# Altium schematic symbol library LIBRARY_SCH.SCHLIB: 713 symbols (part 5 of 6)
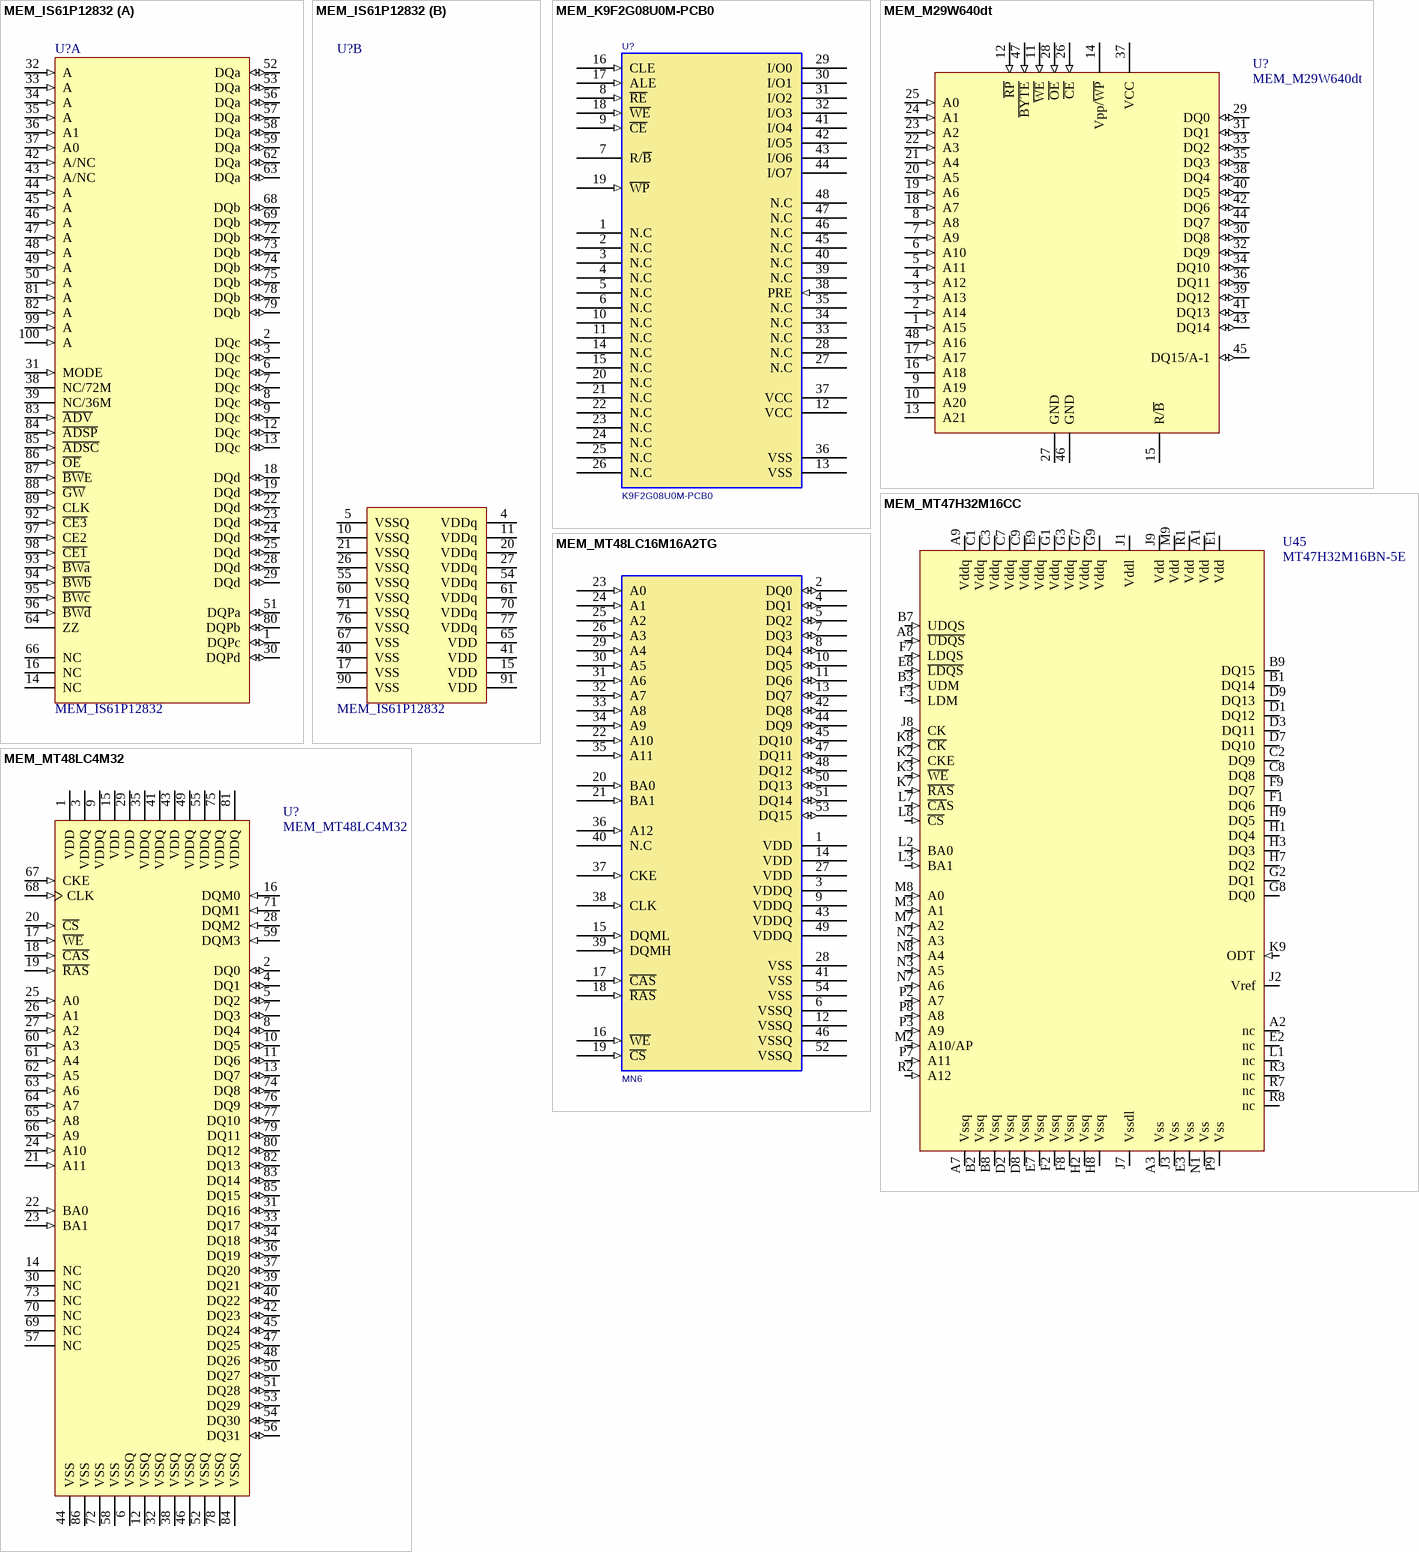
[diagram p43: symbols MEM_IS61P12832 to MEM_MT48LC16M16A2TG]

## MEM_IS61P12832
designator U?
High speed synchronous SRAM
footprint TPQF100A101
part A pins: 1 DQPc (io), 2 DQc (io), 3 DQc (io), 6 DQc (io), 7 DQc (io), 8 DQc (io), 9 DQc (io), 12 DQc (io), 13 DQc (io), 14 NC, 16 NC, 18 DQd (io), 19 DQd (io), 22 DQd (io), 23 DQd (io), 24 DQd (io), 25 DQd (io), 28 DQd (io), 29 DQd (io), 30 DQPd (io), 31 MODE (in), 32 A (in), 33 A (in), 34 A (in), 35 A (in), 36 A1 (in), 37 A0 (in), 38 NC/72M, 39 NC/36M, 42 A/NC (in), 43 A/NC (in), 44 A (in), 45 A (in), 46 A (in), 47 A (in), 48 A (in), 49 A (in), 50 A (in), 51 DQPa (io), 52 DQa (io), 53 DQa (io), 56 DQa (io), 57 DQa (io), 58 DQa (io), 59 DQa (io), 62 DQa (io), 63 DQa (io), 64 ZZ, 66 NC, 68 DQb (io), 69 DQb (io), 72 DQb (io), 73 DQb (io), 74 DQb (io), 75 DQb (io), 78 DQb (io), 79 DQb (io), 80 DQPb (io), 81 A (in), 82 A (in), 83 ~{ADV} (in), 84 ~{ADSP} (in), 85 ~{ADSC} (in), 86 ~{OE} (in), 87 ~{BW}E (in), 88 ~{GW} (in), 89 CLK (in), 92 ~{CE3} (in), 93 ~{BWa} (in), 94 ~{BWb} (in), 95 ~{BWc} (in), 96 ~{BWd} (in), 97 CE2 (in), 98 ~{CE1} (in), 99 A (in), 100 A (in)
part B pins: 4 VDDq (power), 5 VSSQ (power), 10 VSSQ (power), 11 VDDq (power), 15 VDD (power), 17 VSS (power), 20 VDDq (power), 21 VSSQ (power), 26 VSSQ (power), 27 VDDq (power), 40 VSS (power), 41 VDD (power), 54 VDDq (power), 55 VSSQ (power), 60 VSSQ (power), 61 VDDq (power), 65 VDD (power), 67 VSS (power), 70 VDDq (power), 71 VSSQ (power), 76 VSSQ (power), 77 VDDq (power), 90 VSS (power), 91 VDD (power)
2 alternate drawings of the same symbol

## MEM_K9F2G08U0M-PCB0
designator U?  VAL: K9F2G08U0M-PCB0  (hidden comment: MEM_K9F2G08U0M-PCB0)
TEN: 2,7..3,6V; DESIG: NANDFLASH; BOI: TSOP48; FAB: SAMSUNG; DEV: CIS_TSOP48_01; Right: 120; Bottom: 290; REF: K9F2G08U0M-PCB0; RoHS: YES
footprint TSOP48_12x20
pins: 1 N.C, 2 N.C, 3 N.C, 4 N.C, 5 N.C, 6 N.C, 7 R/~{B} (oc), 8 ~{RE} (in), 9 ~{CE} (in), 10 N.C, 11 N.C, 12 VCC (power), 13 VSS (power), 14 N.C, 15 N.C, 16 CLE (in), 17 ALE (in), 18 ~{WE} (in), 19 ~{WP} (in), 20 N.C, 21 N.C, 22 N.C, 23 N.C, 24 N.C, 25 N.C, 26 N.C, 27 N.C, 28 N.C, 29 I/O0 (hiz), 30 I/O1 (hiz), 31 I/O2 (hiz), 32 I/O3 (hiz), 33 N.C, 34 N.C, 35 N.C, 36 VSS (power), 37 VCC (power), 38 PRE (in), 39 N.C, 40 N.C, 41 I/O4 (hiz), 42 I/O5 (hiz), 43 I/O6 (hiz), 44 I/O7 (hiz), 45 N.C, 46 N.C, 47 N.C, 48 N.C

## MEM_M29W640dt
designator U?
Low-Voltage 4 Mbit (x8 or x16, Block Erase) Flash Memory; Published: *; LatestRevisionDate: *; LatestRevisionNote: *; DatasheetDocument: *; PackageDocument: *; PackageReference: *; Publisher: *; Note: *; Code_JEDEC: *; ComponentLink1Description: *; ComponentLink1URL: *
footprint TSOP48
pins: 1 A15 (in), 2 A14 (in), 3 A13 (in), 4 A12 (in), 5 A11 (in), 6 A10 (in), 7 A9 (in), 8 A8 (in), 9 A19, 10 A20, 11 ~{WE} (in), 12 ~{RP} (in), 13 A21 (power), 14 Vpp/~{WP}, 15 R/~{B}, 16 A18, 17 A17 (in), 18 A7 (in), 19 A6 (in), 20 A5 (in), 21 A4 (in), 22 A3 (in), 23 A2 (in), 24 A1 (in), 25 A0 (in), 26 ~{CE} (in), 27 GND (power), 28 ~{OE} (in), 29 DQ0 (io), 30 DQ8 (io), 31 DQ1 (io), 32 DQ9 (io), 33 DQ2 (io), 34 DQ10 (io), 35 DQ3 (io), 36 DQ11 (io), 37 VCC (power), 38 DQ4 (io), 39 DQ12 (io), 40 DQ5 (io), 41 DQ13 (io), 42 DQ6 (io), 43 DQ14 (io), 44 DQ7 (io), 45 DQ15/A-1 (io), 46 GND (power), 47 ~{BYTE} (in), 48 A16 (in)
2 alternate drawings of the same symbol

## MEM_MT47H32M16CC
designator U45, comment MT47H32M16BN-5E
footprint FBGA84
pins: A1 Vdd (power), A2 nc, A3 Vss (power), A7 Vssq (power), A8 ~{UDQS} (in), A9 Vddq (power), B1 DQ14 (io), B2 Vssq (power), B3 UDM (in), B7 UDQS (in), B8 Vssq (power), B9 DQ15 (io), C1 Vddq (power), C2 DQ9 (io), C3 Vddq (power), C7 Vddq (power), C8 DQ8 (io), C9 Vddq (power), D1 DQ12 (io), D2 Vssq (power), D3 DQ11 (io), D7 DQ10 (io), D8 Vssq (power), D9 DQ13 (io), E1 Vdd (power), E2 nc, E3 Vss (power), E7 Vssq (power), E8 ~{LDQS} (in), E9 Vddq (power), F1 DQ6 (io), F2 Vssq (power), F3 LDM (in), F7 LDQS (in), F8 Vssq (power), F9 DQ7 (io), G1 Vddq (power), G2 DQ1 (io), G3 Vddq (power), G7 Vddq (power), G8 DQ0 (io), G9 Vddq (power), H1 DQ4 (io), H2 Vssq (power), H3 DQ3 (io), H7 DQ2 (io), H8 Vssq (power), H9 DQ5 (io), J1 Vddl (power), J2 Vref (power), J3 Vss (power), J7 Vssdl (power), J8 CK (in), J9 Vdd (power), K2 CKE (in), K3 ~{WE} (in), K7 ~{RAS} (in), K8 ~{CK} (in), K9 ODT (in), L1 nc, L2 BA0 (in), L3 BA1 (in), L7 ~{CA}S (in), L8 ~{CS} (in), M2 A10/AP (in), M3 A1 (in), M7 A2 (in), M8 A0 (in), M9 Vdd (power), N1 Vss (power), N2 A3 (in), N3 A5 (in), N7 A6 (in), N8 A4 (in), P2 A7 (in), P3 A9 (in), P7 A11 (in), P8 A8 (in), P9 Vss (power), R1 Vdd (power), R2 A12 (in), R3 nc, R7 nc, R8 nc

## MEM_MT48LC4M32
designator U?
footprint TSOP86
pins: 1 VDD (power), 2 DQ0 (io), 3 VDDQ (power), 4 DQ1 (io), 5 DQ2 (io), 6 VSSQ (power), 7 DQ3 (io), 8 DQ4 (io), 9 VDDQ (power), 10 DQ5 (io), 11 DQ6 (io), 12 VSSQ (power), 13 DQ7 (io), 14 NC, 15 VDD (power), 16 DQM0 (in), 17 ~{WE} (in), 18 ~{CAS} (in), 19 ~{RAS} (in), 20 ~{CS} (in), 21 A11 (in), 22 BA0 (in), 23 BA1 (in), 24 A10 (in), 25 A0 (in), 26 A1 (in), 27 A2 (in), 28 DQM2 (in), 29 VDD (power), 30 NC, 31 DQ16 (io), 32 VSSQ (power), 33 DQ17 (io), 34 DQ18 (io), 35 VDDQ (power), 36 DQ19 (io), 37 DQ20 (io), 38 VSSQ (power), 39 DQ21 (io), 40 DQ22 (io), 41 VDDQ (power), 42 DQ23 (io), 43 VDD (power), 44 VSS (power), 45 DQ24 (io), 46 VSSQ (power), 47 DQ25 (io), 48 DQ26 (io), 49 VDDQ (power), 50 DQ27 (io), 51 DQ28 (io), 52 VSSQ (power), 53 DQ29 (io), 54 DQ30 (io), 55 VDDQ (power), 56 DQ31 (io), 57 NC, 58 VSS (power), 59 DQM3 (in), 60 A3 (in), 61 A4 (in), 62 A5 (in), 63 A6 (in), 64 A7 (in), 65 A8 (in), 66 A9 (in), 67 CKE (in), 68 CLK (in), 69 NC (power), 70 NC (power), 71 DQM1 (in), 72 VSS (power), 73 NC (power), 74 DQ8 (io), 75 VDDQ (power), 76 DQ9 (io), 77 DQ10 (io), 78 VSSQ (power), 79 DQ11 (io), 80 DQ12 (io), 81 VDDQ (power), 82 DQ13 (io), 83 DQ14 (io), 84 VSSQ (power), 85 DQ15 (io), 86 VSS (power)
2 alternate drawings of the same symbol

## MEM_MT48LC16M16A2TG
designator MN6, comment MT48LC16M16A2P-75IT  (value not drawn)
DESIG: SDRAM 4M x 16 x 4; BOI: TSOP54; FAB: MICRON; DEV: TSOP54_01; TEMP: -40°C..+85°C; Right: 120; Bottom: 330; VAL: MT48LC16M16A2P-75IT; REF: MT48LC16M16A2P-75IT
footprint TSOP54
pins: 1 VDD (power), 2 DQ0 (io), 3 VDDQ (power), 4 DQ1 (io), 5 DQ2 (io), 6 VSSQ (power), 7 DQ3 (io), 8 DQ4 (io), 9 VDDQ (power), 10 DQ5 (io), 11 DQ6 (io), 12 VSSQ (power), 13 DQ7 (io), 14 VDD (power), 15 DQML (in), 16 ~{WE} (in), 17 ~{CAS} (in), 18 ~{RAS} (in), 19 ~{CS} (in), 20 BA0 (in), 21 BA1 (in), 22 A10 (in), 23 A0 (in), 24 A1 (in), 25 A2 (in), 26 A3 (in), 27 VDD (power), 28 VSS (power), 29 A4 (in), 30 A5 (in), 31 A6 (in), 32 A7 (in), 33 A8 (in), 34 A9 (in), 35 A11 (in), 36 A12 (in), 37 CKE (in), 38 CLK (in), 39 DQMH (in), 40 N.C, 41 VSS (power), 42 DQ8 (io), 43 VDDQ (power), 44 DQ9 (io), 45 DQ10 (io), 46 VSSQ (power), 47 DQ11 (io), 48 DQ12 (io), 49 VDDQ (power), 50 DQ13 (io), 51 DQ14 (io), 52 VSSQ (power), 53 DQ15 (io), 54 VSS (power)
text: MT48LC16M16A2

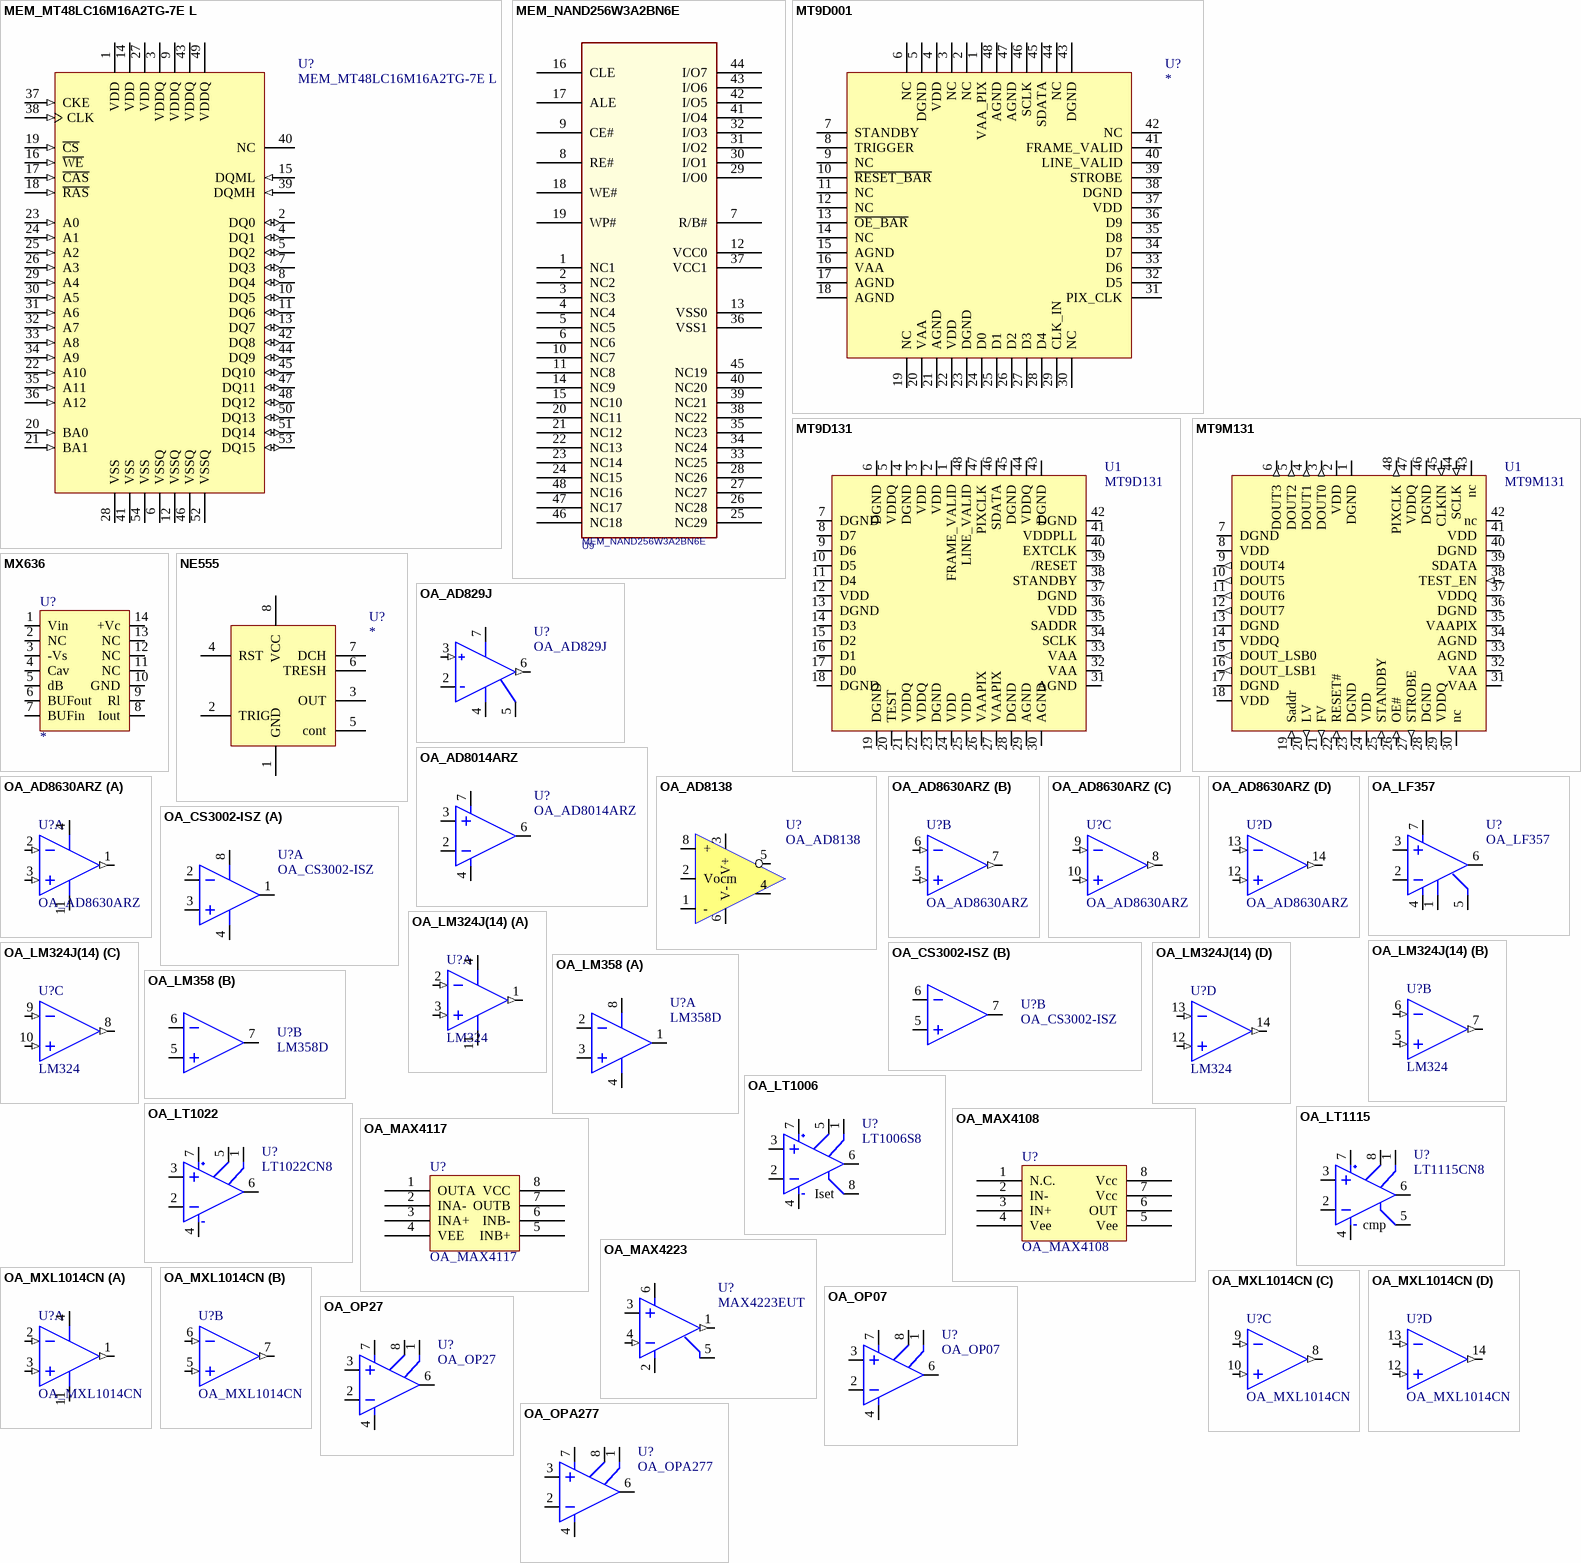
[diagram p31: symbols MEM_MT48LC16M16A2TG-7E L to OA_OPA277]

## MEM_MT48LC16M16A2TG-7E L
designator U?
256Mb Synchronous High-Speed CMOS DRAM, 16Mb x 16Bit x 4 Banks, 54-Pin TSOP, Commercial, Low Power; Published: *; DatasheetDocument: *; PackageDocument: *; PackageReference: *; Publisher: *; CycleTime: *; RowAddress: *; ColumnAddress: *; Code_JEDEC: *; ComponentLink1Description: *; ComponentLink1URL: *; ComponentLink2Description: *; ComponentLink2URL: *
footprint TSOP54
pins: 1 VDD (power), 2 DQ0 (io), 3 VDDQ (power), 4 DQ1 (io), 5 DQ2 (io), 6 VSSQ (power), 7 DQ3 (io), 8 DQ4 (io), 9 VDDQ (power), 10 DQ5 (io), 11 DQ6 (io), 12 VSSQ (power), 13 DQ7 (io), 14 VDD (power), 15 DQML (in), 16 ~{WE} (in), 17 ~{CAS} (in), 18 ~{RAS} (in), 19 ~{CS} (in), 20 BA0 (in), 21 BA1 (in), 22 A10 (in), 23 A0 (in), 24 A1 (in), 25 A2 (in), 26 A3 (in), 27 VDD (power), 28 VSS (power), 29 A4 (in), 30 A5 (in), 31 A6 (in), 32 A7 (in), 33 A8 (in), 34 A9 (in), 35 A11 (in), 36 A12 (in), 37 CKE (in), 38 CLK (in), 39 DQMH (in), 40 NC, 41 VSS (power), 42 DQ8 (io), 43 VDDQ (power), 44 DQ9 (io), 45 DQ10 (io), 46 VSSQ (power), 47 DQ11 (io), 48 DQ12 (io), 49 VDDQ (power), 50 DQ13 (io), 51 DQ14 (io), 52 VSSQ (power), 53 DQ15 (io), 54 VSS (power)
2 alternate drawings of the same symbol

## MEM_NAND256W3A2BN6E
designator U9
footprint TSOP48_12x20 (Footprint not found)
pins: 1 NC1, 2 NC2, 3 NC3, 4 NC4, 5 NC5, 6 NC6, 7 R/B#, 8 RE#, 9 CE#, 10 NC7, 11 NC8, 12 VCC0 (power), 13 VSS0 (power), 14 NC9, 15 NC10, 16 CLE, 17 ALE, 18 WE#, 19 WP#, 20 NC11, 21 NC12, 22 NC13, 23 NC14, 24 NC15, 25 NC29, 26 NC28, 27 NC27, 28 NC26, 29 I/O0, 30 I/O1, 31 I/O2, 32 I/O3, 33 NC25, 34 NC24, 35 NC23, 36 VSS1 (power), 37 VCC1 (power), 38 NC22, 39 NC21, 40 NC20, 41 I/O4, 42 I/O5, 43 I/O6, 44 I/O7, 45 NC19, 46 NC18, 47 NC17, 48 NC16

## MT9D001
designator U?
CMOS sensor
footprint CLCC48
pins: 1 VAA_PIX, 2 NC, 3 NC, 4 VDD, 5 DGND, 6 NC, 7 STANDBY, 8 TRIGGER, 9 NC, 10 ~{RESET_BAR}, 11 NC, 12 NC, 13 ~{OE_BAR}, 14 NC, 15 AGND, 16 VAA, 17 AGND, 18 AGND, 19 NC, 20 VAA, 21 AGND, 22 VDD, 23 DGND, 24 D0, 25 D1, 26 D2, 27 D3, 28 D4, 29 CLK_IN, 30 NC, 31 PIX_CLK, 32 D5, 33 D6, 34 D7, 35 D8, 36 D9, 37 VDD, 38 DGND, 39 STROBE, 40 LINE_VALID, 41 FRAME_VALID, 42 NC, 43 DGND, 44 NC, 45 SDATA, 46 SCLK, 47 AGND, 48 AGND
2 alternate drawings of the same symbol

## MT9D131
designator U1
footprint LCC48
pins: 1 FRAME_VALID, 2 VDD, 3 VDD, 4 DGND, 5 VDDQ, 6 DGND, 7 DGND, 8 D7, 9 D6, 10 D5, 11 D4, 12 VDD, 13 DGND, 14 D3, 15 D2, 16 D1, 17 D0, 18 DGND, 19 DGND, 20 TEST, 21 VDDQ, 22 VDDQ, 23 DGND, 24 VDD, 25 VDD, 26 VAAPIX, 27 VAAPIX, 28 DGND, 29 AGND, 30 AGND, 31 AGND, 32 VAA, 33 VAA, 34 SCLK, 35 SADDR, 36 VDD, 37 DGND, 38 STANDBY, 39 /RESET, 40 EXTCLK, 41 VDDPLL, 42 DGND, 43 DGND, 44 VDDQ, 45 DGND, 46 SDATA, 47 PIXCLK, 48 LINE_VALID

## MT9M131
designator U1
SOC Megapixel Digital Image Sensor
footprint LCC48
pins: 1 DGND (power), 2 VDD (power), 3 DOUT0 (out), 4 DOUT1 (out), 5 DOUT2 (out), 6 DOUT3 (out), 7 DGND (power), 8 VDD (power), 9 DOUT4 (out), 10 DOUT5 (out), 11 DOUT6 (out), 12 DOUT7 (out), 13 DGND (power), 14 VDDQ (power), 15 DOUT_LSB0 (out), 16 DOUT_LSB1 (out), 17 DGND (power), 18 VDD (power), 19 Saddr (in), 20 LV (out), 21 FV (out), 22 RESET# (in), 23 DGND (power), 24 VDD (power), 25 STANDBY (in), 26 OE# (in), 27 STROBE (out), 28 DGND (power), 29 VDDQ (power), 30 nc, 31 VAA (power), 32 VAA (power), 33 AGND (power), 34 AGND (power), 35 VAAPIX (power), 36 DGND (power), 37 VDDQ (power), 38 TEST_EN (in), 39 SDATA (io), 40 DGND (power), 41 VDD (power), 42 nc, 43 nc, 44 SCLK (in), 45 CLKIN (in), 46 DGND (power), 47 VDDQ (power), 48 PIXCLK (out)

## MX636
designator U?
RMS/DC converter
footprint DIP-14
pins: 1 Vin, 2 NC, 3 -Vs, 4 Cav, 5 dB, 6 BUFout, 7 BUFin, 8 Iout, 9 Rl, 10 GND, 11 NC, 12 NC, 13 NC, 14 +Vc
2 alternate drawings of the same symbol

## NE555
designator U?
footprint DIP-8
footprint SO-8
pins: 1 GND, 2 TRIG, 3 OUT, 4 RST, 5 cont, 6 TRESH, 7 DCH, 8 VCC
2 alternate drawings of the same symbol

## OA_AD829J
designator U?
OPAMP
footprint SO-8
pins: 2 in-, 3 IN+ (in), 4 V- (power), 5 COMP, 6 OUT (out), 7 V+ (power)
2 alternate drawings of the same symbol

## OA_AD8014ARZ
designator U?
400 MHz Low Power  High Performance Amplifier
footprint so-8
pins: 2, 3, 4, 6, 7
2 alternate drawings of the same symbol

## OA_AD8138
designator U?
footprint SO-8
footprint MSOP-8
pins: 1 -, 2 Vocm, 3 V+, 4, 5, 6 V-, 8 +
2 alternate drawings of the same symbol

## OA_AD8630ARZ
designator U?
Low Vos Quad Operational Amplifier; Text Field1: pristel=Nsc\nsanopea\<parttype>.ckt
footprint so-14
part A pins: 1 1 OUT (out), 2 1 IN- (in), 3 1 IN+ (in), 4 VCC (power), 11 VEE (power)
part B pins: 5 2 IN+ (in), 6 2 IN- (in), 7 2 OUT (out)
part C pins: 8 3 OUT (out), 9 3 IN- (in), 10 3 IN+ (in)
part D pins: 12 4 IN+ (in), 13 4 IN- (in), 14 4 OUT (out)
2 alternate drawings of the same symbol

## OA_CS3002-ISZ
designator U?
Precision Low-voltage Amplifier; DC to 2 kHz
footprint SO-8
part A pins: 1 OUT, 2 IN-, 3 IN+, 4 V-, 8 V+
part B pins: 5 IN+, 6 IN-, 7 OUT
2 alternate drawings of the same symbol

## OA_LF357
designator U?
footprint DIP-8
footprint so-8
pins: 1, 2, 3, 4, 5, 6, 7
2 alternate drawings of the same symbol

## OA_LM324J(14)
designator U?, comment LM324
Low Power Quad Operational Amplifier; Text Field1: pristel=Nsc\nsanopea\<parttype>.ckt
footprint so-14
footprint DIP-14
part A pins: 1 1 OUT (out), 2 1 IN- (in), 3 1 IN+ (in), 4 VCC (power), 11 VEE (power)
part B pins: 5 2 IN+ (in), 6 2 IN- (in), 7 2 OUT (out)
part C pins: 8 3 OUT (out), 9 3 IN- (in), 10 3 IN+ (in)
part D pins: 12 4 IN+ (in), 13 4 IN- (in), 14 4 OUT (out)
2 alternate drawings of the same symbol

## OA_LM358
designator U?, comment LM358D
Operational Amplifier
footprint SO-8
footprint DIP-8
part A pins: 1 OUT, 2 IN-, 3 IN+, 4 V-, 8 V+
part B pins: 5 IN+, 6 IN-, 7 OUT
2 alternate drawings of the same symbol

## OA_LT1006
designator U?, comment LT1006S8
Precision, Single Supply Op Amp
footprint SO-8
pins: 1, 2, 3, 4, 5, 6, 7, 8 Iset

## OA_LT1022
designator U?, comment LT1022CN8
High Speed, Precision  JFET Input Operational Amplifier
footprint DIP-8
pins: 1, 2, 3, 4, 5, 6, 7

## OA_LT1115
designator U?, comment LT1115CN8
Ultralow Noise,  Low Distortion, Audio Op Amp
footprint SO-8
pins: 1, 2, 3, 4, 5 cmp, 6, 7, 8

## OA_MAX4108
designator U?
pins: 1 N.C., 2 IN-, 3 IN+, 4 Vee, 5 Vee, 6 OUT, 7 Vcc, 8 Vcc
2 alternate drawings of the same symbol

## OA_MAX4117
designator U?
footprint SO-8
pins: 1 OUTA, 2 INA-, 3 INA+, 4 VEE, 5 INB+, 6 INB-, 7 OUTB, 8 VCC
2 alternate drawings of the same symbol

## OA_MAX4223
designator U?, comment MAX4223EUT
1GHz, Low-Power, SOT23,  Current-Feedback Amplifiers with Shutdown
footprint SOT23-6
pins: 1 (out), 2 (power), 3, 4 (in), 5, 6 (power)
2 alternate drawings of the same symbol

## OA_MXL1014CN
designator U?
Low Power Quad Operational Amplifier; Text Field1: pristel=Nsc\nsanopea\<parttype>.ckt
footprint so-14
footprint DIP-14
footprint DIP-14
part A pins: 1 1 OUT (out), 2 1 IN- (in), 3 1 IN+ (in), 4 VCC (power), 11 VEE (power)
part B pins: 5 2 IN+ (in), 6 2 IN- (in), 7 2 OUT (out)
part C pins: 8 3 OUT (out), 9 3 IN- (in), 10 3 IN+ (in)
part D pins: 12 4 IN+ (in), 13 4 IN- (in), 14 4 OUT (out)
2 alternate drawings of the same symbol

## OA_OP07
designator U?
precision low offset OPAMP (Maritex)
footprint DIP-8
footprint so-8
pins: 1, 2, 3, 4, 6, 7, 8
2 alternate drawings of the same symbol

## OA_OP27
designator U?
footprint DIP-8
footprint so-8
pins: 1, 2, 3, 4, 6, 7, 8
2 alternate drawings of the same symbol

## OA_OPA277
designator U?
precision low offset OPAMP
footprint DIP-8
footprint so-8
pins: 1, 2, 3, 4, 6, 7, 8
2 alternate drawings of the same symbol

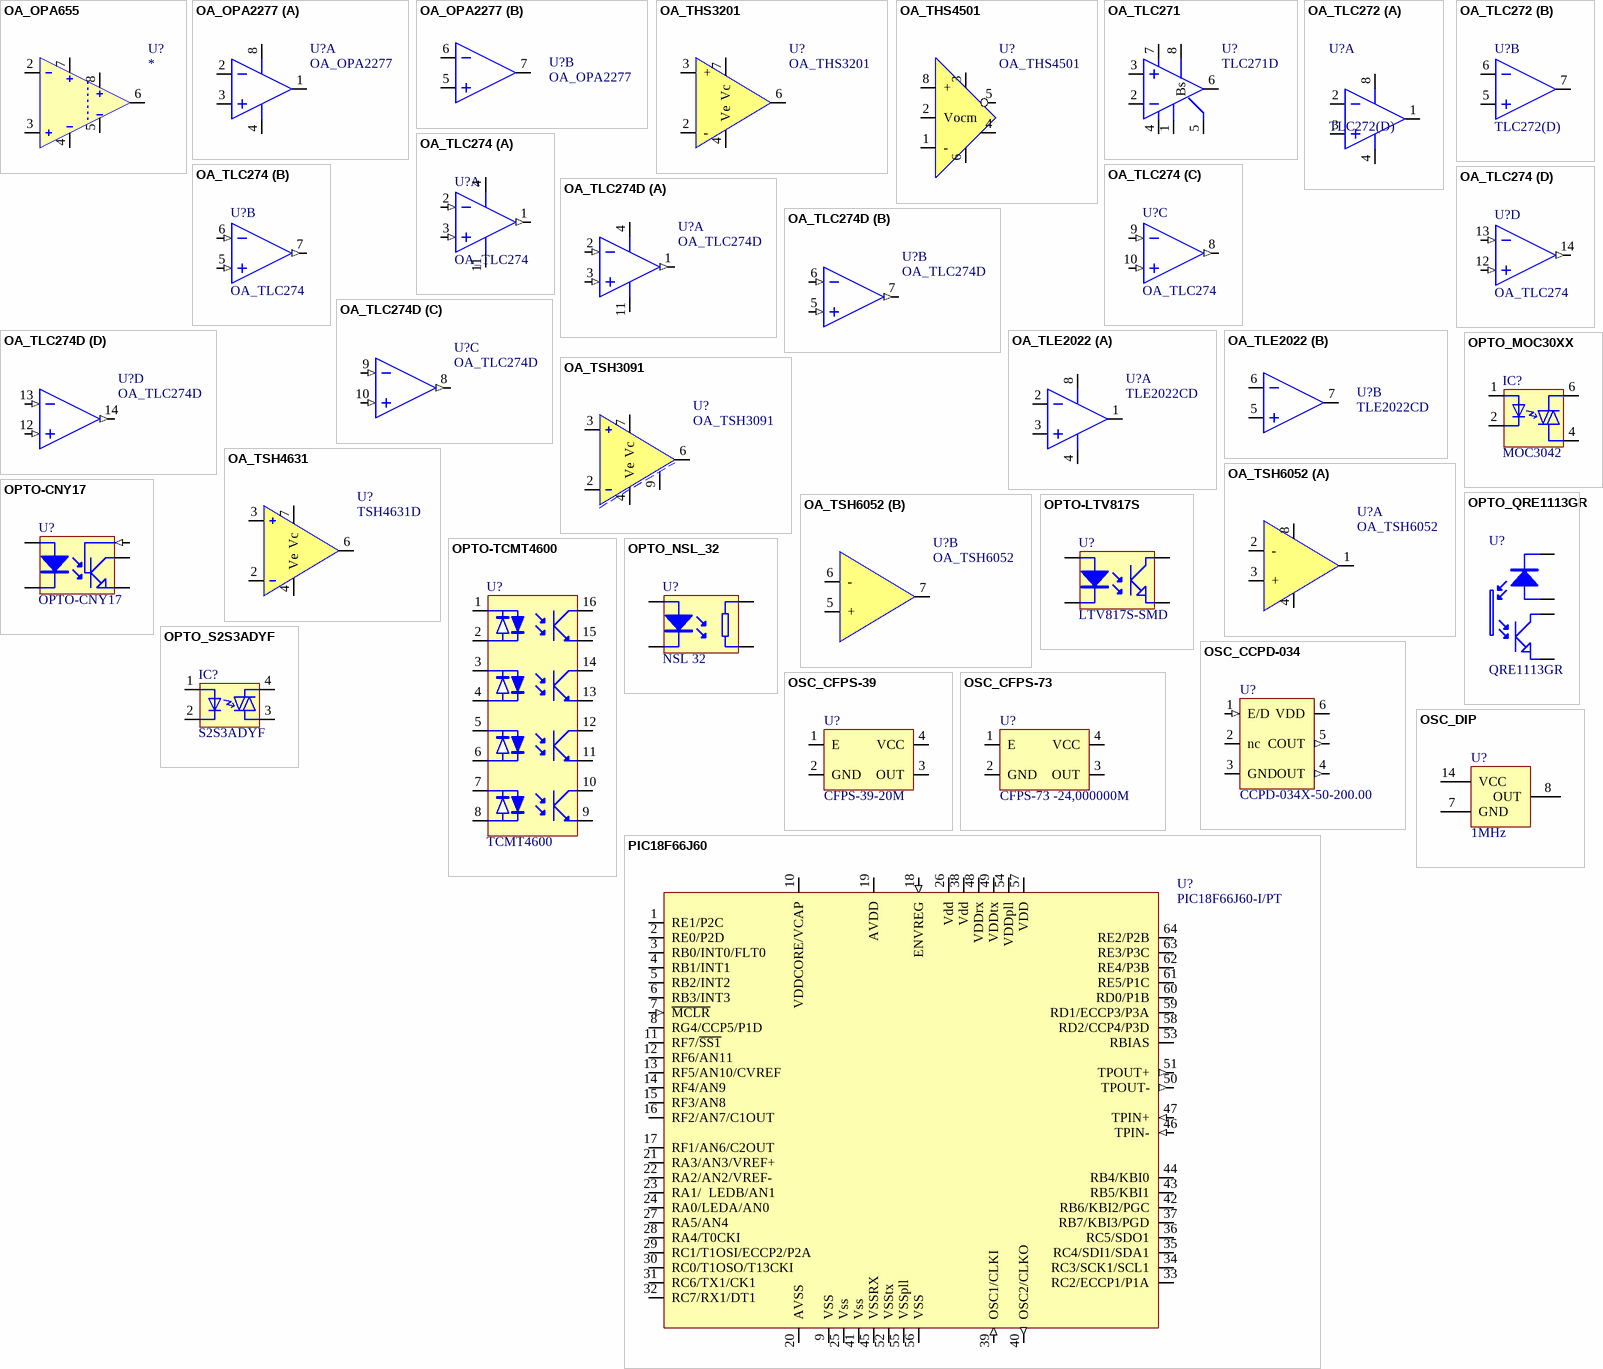
[diagram p32: symbols OA_OPA655 to PIC18F66J60]

## OA_OPA655
designator U?
footprint SO-8
pins: 2, 3, 4, 5, 6, 7, 8
2 alternate drawings of the same symbol

## OA_OPA2277
designator U?
precision 36V Operational Amplifier (TME)
footprint SO-8
part A pins: 1 OUT, 2 IN-, 3 IN+, 4 V-, 8 V+
part B pins: 5 IN+, 6 IN-, 7 OUT
2 alternate drawings of the same symbol

## OA_THS3201
designator U?
footprint SO-8
pins: 2 -, 3 +, 4 Ve, 6, 7 Vc
2 alternate drawings of the same symbol

## OA_THS4501
designator U?
footprint SO-8
pins: 1 -, 2 Vocm, 3, 4, 5, 6, 8 +
2 alternate drawings of the same symbol

## OA_TLC271
designator U?, comment TLC271D
program LP amplifier (Maritex)
footprint DIP-8
footprint so-8
pins: 1, 2, 3, 4, 5, 6, 7, 8 Bs    
2 alternate drawings of the same symbol

## OA_TLC272
designator U?, comment TLC272(D)
Operational Amplifier
footprint SO-8
footprint DIP-8
part A pins: 1 OUT, 2 IN-, 3 IN+, 4 V-, 8 V+
part B pins: 5 IN+, 6 IN-, 7 OUT
2 alternate drawings of the same symbol

## OA_TLC274
designator U?
LP HS OPAMP (Maritex); Text Field1: pristel=Nsc\nsanopea\<parttype>.ckt
footprint dip-14
part A pins: 1 1 OUT (out), 2 1 IN- (in), 3 1 IN+ (in), 4 VCC (power), 11 VEE (power)
part B pins: 5 2 IN+ (in), 6 2 IN- (in), 7 2 OUT (out)
part C pins: 8 3 OUT (out), 9 3 IN- (in), 10 3 IN+ (in)
part D pins: 12 4 IN+ (in), 13 4 IN- (in), 14 4 OUT (out)
2 alternate drawings of the same symbol

## OA_TLC274D
designator U?
LP HS OPAMP (Maritex); Text Field1: pristel=Nsc\nsanopea\<parttype>.ckt
footprint so-14
part A pins: 1 1 OUT (out), 2 1 IN- (in), 3 1 IN+ (in), 4 VCC (power), 11 VEE (power)
part B pins: 5 2 IN+ (in), 6 2 IN- (in), 7 2 OUT (out)
part C pins: 8 3 OUT (out), 9 3 IN- (in), 10 3 IN+ (in)
part D pins: 12 4 IN+ (in), 13 4 IN- (in), 14 4 OUT (out)
2 alternate drawings of the same symbol

## OA_TLE2022
designator U?, comment TLE2022CD
precision 40V Operational Amplifier (TME)
footprint SO-8
part A pins: 1 OUT, 2 IN-, 3 IN+, 4 V-, 8 V+
part B pins: 5 IN+, 6 IN-, 7 OUT
2 alternate drawings of the same symbol

## OA_TSH3091
designator U?
footprint PDSO-8
pins: 2, 3, 4 Ve, 6, 7 Vc, 9
2 alternate drawings of the same symbol

## OA_TSH4631
designator U?, comment TSH4631D
HIGH-VOLTAGE, HIGH SLEW RATE, WIDEBAND  FET-INPUT OPERATIONAL AMPLIFIER
footprint SO-8
pins: 2, 3, 4 Ve, 6, 7 Vc
2 alternate drawings of the same symbol

## OA_TSH6052
designator U?
footprint SO-8
part A pins: 1, 2 -, 3 +, 4, 8
part B pins: 5 +, 6 -, 7
2 alternate drawings of the same symbol

## OPTO-CNY17
designator U?
transoptor
footprint DIP-6
pins: 1, 2, 4, 5, 6 (in)

## OPTO-LTV817S
designator U?, comment LTV817S-SMD
transoptor
footprint SOP_4
pins: 1 A, 2 K, 3 C, 4 E

## OPTO-TCMT4600
designator U?, comment TCMT4600
transoptor
footprint SOP-16_OPTO
pins: 1, 2, 3, 4, 5, 6, 7, 8, 9 (oe), 10, 11 (oe), 12, 13 (oe), 14, 15 (oe), 16

## OPTO_MOC30XX
designator IC?, comment MOC3042
optotriac
footprint DIP-6
pins: 1, 2, 4, 6
2 alternate drawings of the same symbol

## OPTO_NSL_32
designator U?, comment NSL 32
Optoisolator
footprint OPTO_NSL_32 (optoisolator)
pins: A 1, K 2, R1 5, R2 4

## OPTO_QRE1113GR
designator U?, comment QRE1113GR
reflective transoptor (Farnell)
footprint OPTO_QRE1113GR
pins: 1 A, 2 K, 3 C, 4 E

## OPTO_S2S3ADYF
designator IC?, comment S2S3ADYF
optotriac
footprint SOP-4_OPTO
pins: 1, 2, 3, 4
2 alternate drawings of the same symbol

## OSC_CCPD-034
designator U?, comment CCPD-034X-50-200.00
Differential LVPECL  Clock Oscillator
footprint CCPD-034 (Footprint not found)
pins: 1 E/D (in), 2 nc, 3 GND (power), 4 OUT (out), 5 COUT (out), 6 VDD (power)

## OSC_CFPS-39
designator U?, comment CFPS-39-20M
SMD oscillator 3.3V (Elfa); alt name: CFPS-39-20M
footprint CFPS39
pins: 1 E, 2 GND, 3 OUT, 4 VCC
2 alternate drawings of the same symbol

## OSC_CFPS-73
designator U?, comment CFPS-73 -24,000000M
SMD oscillator 3.3V (Elfa)
footprint SPXO
pins: 1 E, 2 GND, 3 OUT, 4 VCC
2 alternate drawings of the same symbol

## OSC_DIP
designator U?, comment 1MHz
footprint OSC_DIP
pins: 7 GND, 8 OUT, 14 VCC
2 alternate drawings of the same symbol

## PIC18F66J60
designator U?, comment PIC18F66J60-I/PT
footprint TQFP64-MAX
pins: 1 RE1/P2C (io), 2 RE0/P2D (io), 3 RB0/INT0/FLT0 (io), 4 RB1/INT1 (io), 5 RB2/INT2 (io), 6 RB3/INT3 (io), 7 ~{MCLR} (in), 8 RG4/CCP5/P1D (io), 9 VSS (power), 10 VDDCORE/VCAP (power), 11 RF7/~{SS1} (io), 12 RF6/AN11 (io), 13 RF5/AN10/CVREF (io), 14 RF4/AN9 (io), 15 RF3/AN8 (io), 16 RF2/AN7/C1OUT (io), 17 RF1/AN6/C2OUT (io), 18 ENVREG (in), 19 AVDD (power), 20 AVSS (power), 21 RA3/AN3/VREF+ (io), 22 RA2/AN2/VREF- (io), 23 RA1/  LEDB/AN1 (io), 24 RA0/LEDA/AN0 (io), 25 Vss (power), 26 Vdd (power), 27 RA5/AN4 (io), 28 RA4/T0CKI (io), 29 RC1/T1OSI/ECCP2/P2A (io), 30 RC0/T1OSO/T13CKI (io), 31 RC6/TX1/CK1 (io), 32 RC7/RX1/DT1 (io), 33 RC2/ECCP1/P1A (io), 34 RC3/SCK1/SCL1 (io), 35 RC4/SDI1/SDA1 (io), 36 RC5/SDO1 (io), 37 RB7/KBI3/PGD (io), 38 Vdd (power), 39 OSC1/CLKI (in), 40 OSC2/CLKO (out), 41 Vss (power), 42 RB6/KBI2/PGC (io), 43 RB5/KBI1 (io), 44 RB4/KBI0 (io), 45 VSSRX (power), 46 TPIN- (in), 47 TPIN+ (in), 48 VDDrx (power), 49 VDDtx (power), 50 TPOUT- (out), 51 TPOUT+ (out), 52 VSStx (power), 53 RBIAS, 54 VDDpll (power), 55 VSSpll (power), 56 VSS (power), 57 VDD (power), 58 RD2/CCP4/P3D (io), 59 RD1/ECCP3/P3A (io), 60 RD0/P1B (io), 61 RE5/P1C (io), 62 RE4/P3B (io), 63 RE3/P3C (io), 64 RE2/P2B (io)

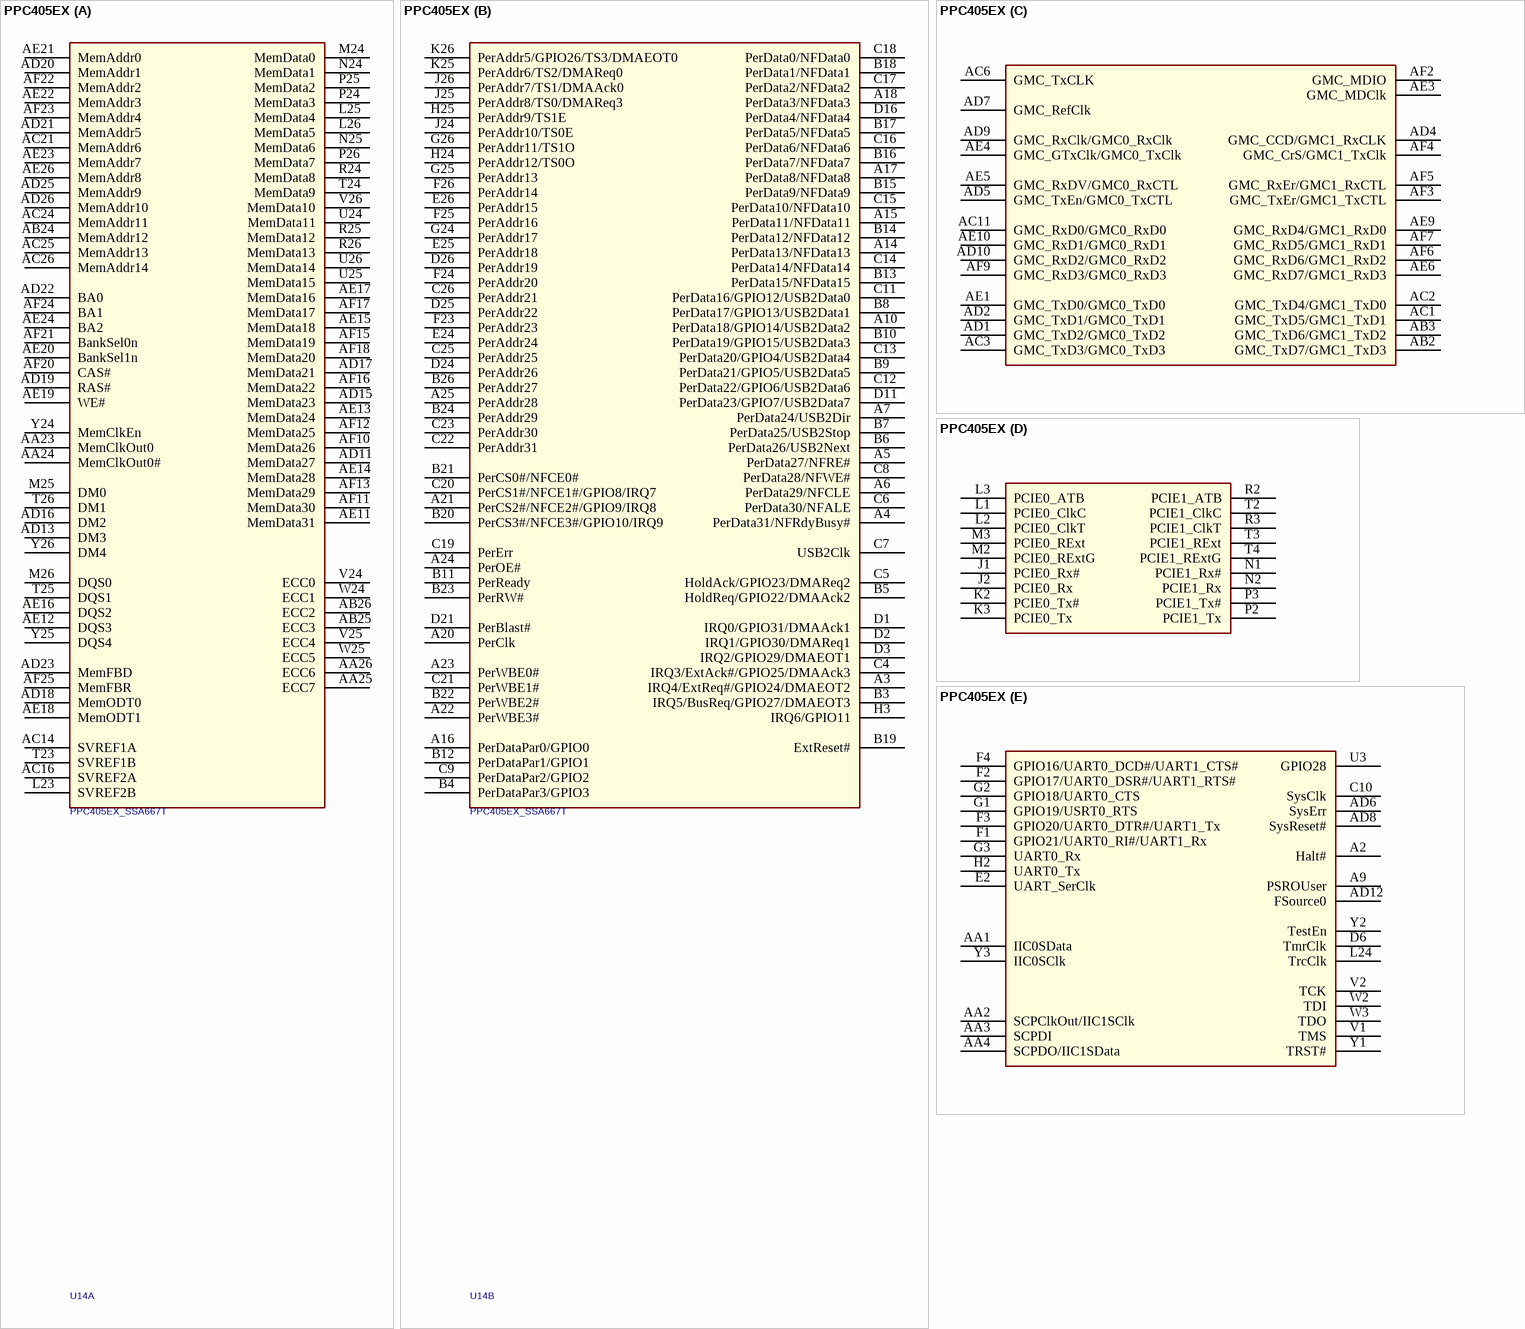
[diagram p33: symbol PPC405EX]

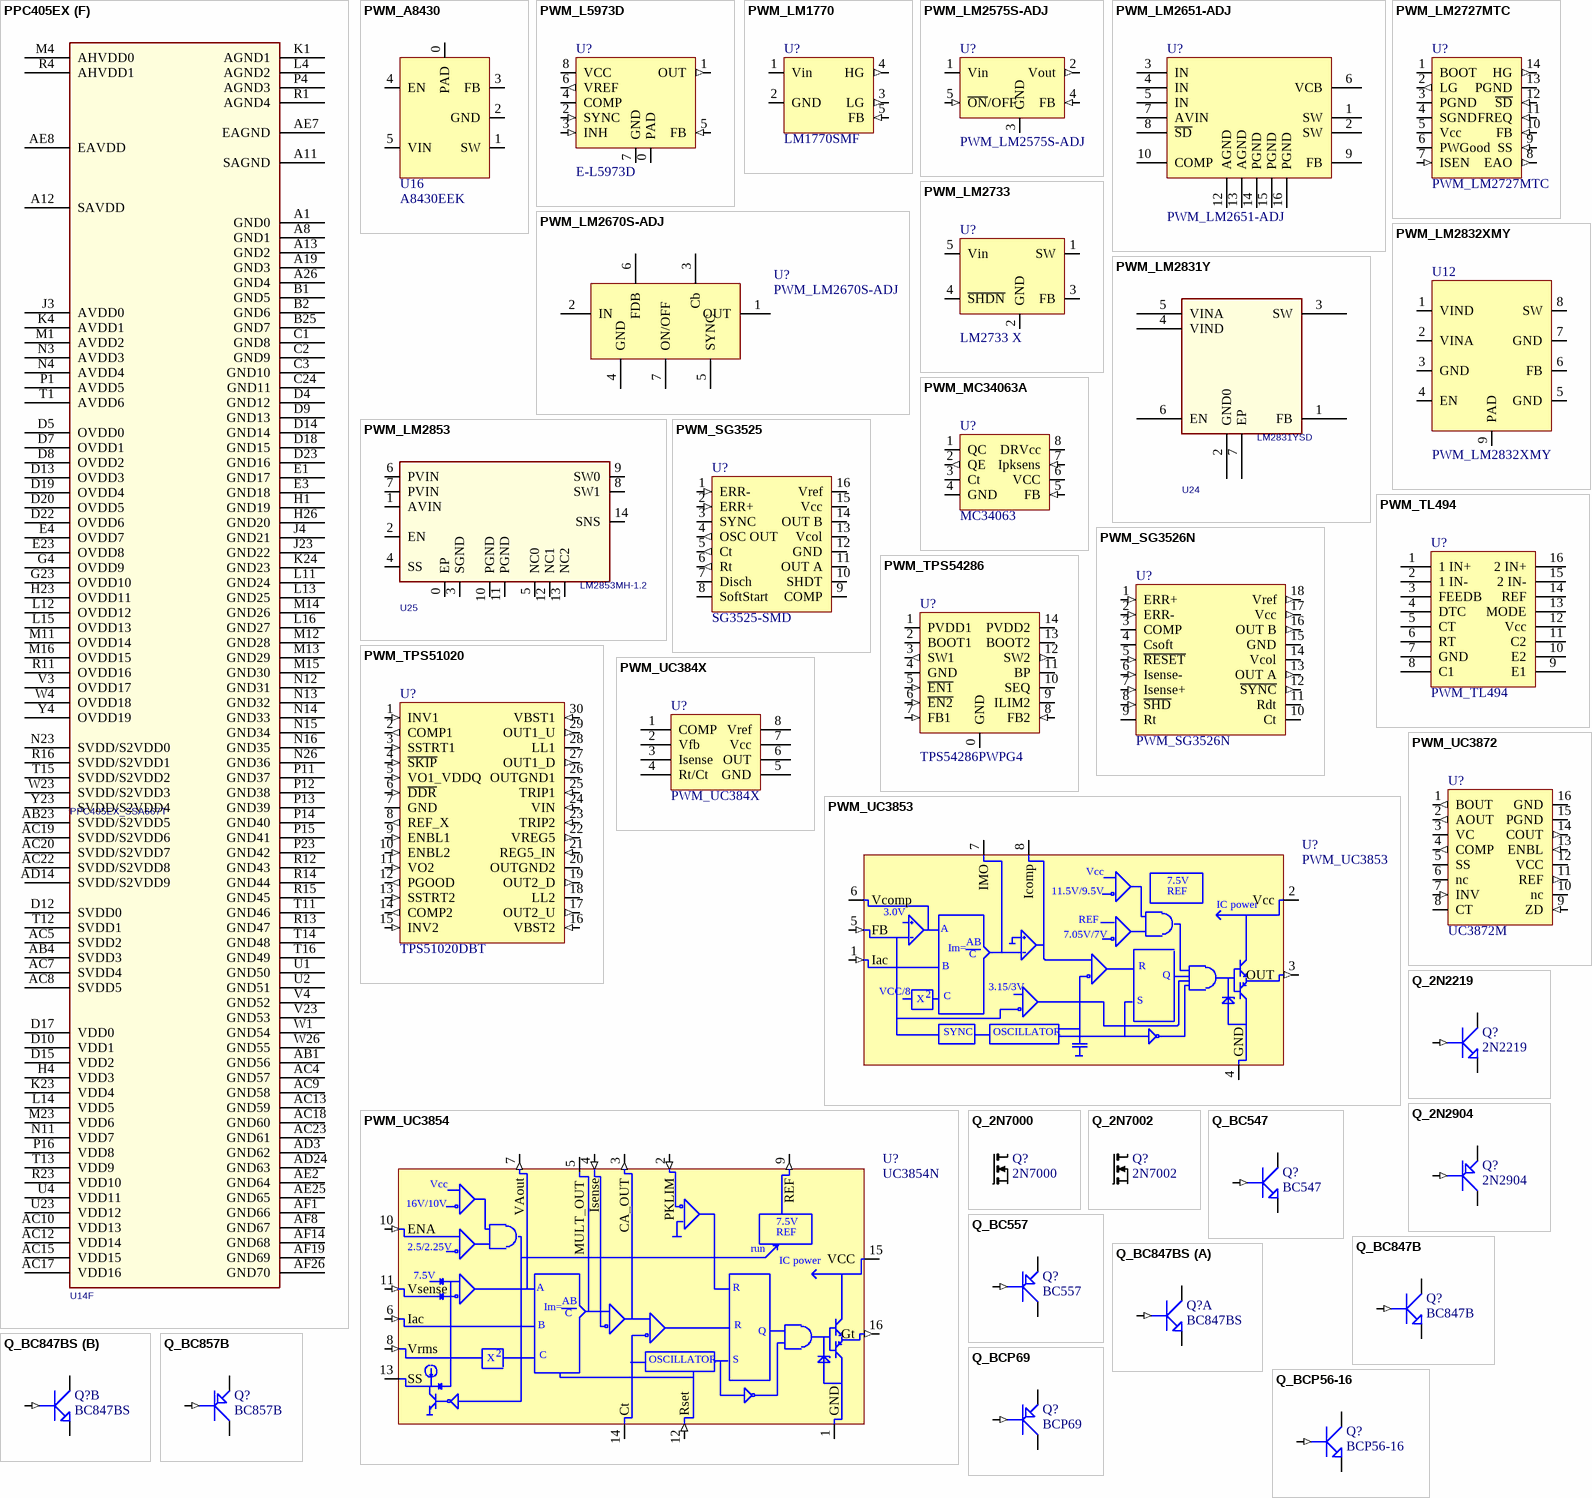
[diagram p34: symbols PPC405EX to Q_BCP69]

## PPC405EX
designator U14, comment PPC405EX_SSA667T
power PC processor
footprint BGA388_26x26 (Footprint not found)
part A pins: AA23 MemClkOut0, AA24 MemClkOut0#, AA25 ECC7, AA26 ECC6, AB24 MemAddr12, AB25 ECC3, AB26 ECC2, AC14 SVREF1A, AC16 SVREF2A, AC21 MemAddr6, AC24 MemAddr11, AC25 MemAddr13, AC26 MemAddr14, AD11 MemData27, AD13 DM3, AD15 MemData23, AD16 DM2, AD17 MemData21, AD18 MemODT0, AD19 RAS#, AD20 MemAddr1, AD21 MemAddr5, AD22 BA0, AD23 MemFBD, AD25 MemAddr9, AD26 MemAddr10, AE11 MemData31, AE12 DQS3, AE13 MemData24, AE14 MemData28, AE15 MemData18, AE16 DQS2, AE17 MemData16, AE18 MemODT1, AE19 WE#, AE20 BankSel1n, AE21 MemAddr0, AE22 MemAddr3, AE23 MemAddr7, AE24 BA2, AE26 MemAddr8, AF10 MemData26, AF11 MemData30, AF12 MemData25, AF13 MemData29, AF15 MemData19, AF16 MemData22, AF17 MemData17, AF18 MemData20, AF20 CAS#, AF21 BankSel0n, AF22 MemAddr2, AF23 MemAddr4, AF24 BA1, AF25 MemFBR, L23 SVREF2B, L25 MemData4, L26 MemData5, M24 MemData0, M25 DM0, M26 DQS0, N24 MemData1, N25 MemData6, P24 MemData3, P25 MemData2, P26 MemData7, R24 MemData8, R25 MemData12, R26 MemData13, T23 SVREF1B, T24 MemData9, T25 DQS1, T26 DM1, U24 MemData11, U25 MemData15, U26 MemData14, V24 ECC0, V25 ECC4, V26 MemData10, W24 ECC1, W25 ECC5, Y24 MemClkEn, Y25 DQS4, Y26 DM4
part B pins: A3 IRQ4/ExtReq#/GPIO24/DMAEOT2, A4 PerData31/NFRdyBusy#, A5 PerData27/NFRE#, A6 PerData29/NFCLE, A7 PerData24/USB2Dir, A10 PerData18/GPIO14/USB2Data2, A14 PerData13/NFData13, A15 PerData11/NFData11, A16 PerDataPar0/GPIO0, A17 PerData8/NFData8, A18 PerData3/NFData3, A20 PerClk, A21 PerCS2#/NFCE2#/GPIO9/IRQ8, A22 PerWBE3#, A23 PerWBE0#, A24 PerOE#, A25 PerAddr28, B3 IRQ5/BusReq/GPIO27/DMAEOT3, B4 PerDataPar3/GPIO3, B5 HoldReq/GPIO22/DMAAck2, B6 PerData26/USB2Next, B7 PerData25/USB2Stop, B8 PerData17/GPIO13/USB2Data1, B9 PerData21/GPIO5/USB2Data5, B10 PerData19/GPIO15/USB2Data3, B11 PerReady, B12 PerDataPar1/GPIO1, B13 PerData15/NFData15, B14 PerData12/NFData12, B15 PerData9/NFData9, B16 PerData7/NFData7, B17 PerData5/NFData5, B18 PerData1/NFData1, B19 ExtReset#, B20 PerCS3#/NFCE3#/GPIO10/IRQ9, B21 PerCS0#/NFCE0#, B22 PerWBE2#, B23 PerRW#, B24 PerAddr29, B26 PerAddr27, C4 IRQ3/ExtAck#/GPIO25/DMAAck3, C5 HoldAck/GPIO23/DMAReq2, C6 PerData30/NFALE, C7 USB2Clk, C8 PerData28/NFWE#, C9 PerDataPar2/GPIO2, C11 PerData16/GPIO12/USB2Data0, C12 PerData22/GPIO6/USB2Data6, C13 PerData20/GPIO4/USB2Data4, C14 PerData14/NFData14, C15 PerData10/NFData10, C16 PerData6/NFData6, C17 PerData2/NFData2, C18 PerData0/NFData0, C19 PerErr, C20 PerCS1#/NFCE1#/GPIO8/IRQ7, C21 PerWBE1#, C22 PerAddr31, C23 PerAddr30, C25 PerAddr25, C26 PerAddr21, D1 IRQ0/GPIO31/DMAAck1, D2 IRQ1/GPIO30/DMAReq1, D3 IRQ2/GPIO29/DMAEOT1, D11 PerData23/GPIO7/USB2Data7, D16 PerData4/NFData4, D21 PerBlast#, D24 PerAddr26, D25 PerAddr22, D26 PerAddr19, E24 PerAddr24, E25 PerAddr18, E26 PerAddr15, F23 PerAddr23, F24 PerAddr20, F25 PerAddr16, F26 PerAddr14, G24 PerAddr17, G25 PerAddr13, G26 PerAddr11/TS1O, H3 IRQ6/GPIO11, H24 PerAddr12/TS0O, H25 PerAddr9/TS1E, J24 PerAddr10/TS0E, J25 PerAddr8/TS0/DMAReq3, J26 PerAddr7/TS1/DMAAck0, K25 PerAddr6/TS2/DMAReq0, K26 PerAddr5/GPIO26/TS3/DMAEOT0
part C pins: AB2 GMC_TxD7/GMC1_TxD3, AB3 GMC_TxD6/GMC1_TxD2, AC1 GMC_TxD5/GMC1_TxD1, AC2 GMC_TxD4/GMC1_TxD0, AC3 GMC_TxD3/GMC0_TxD3, AC6 GMC_TxCLK, AC11 GMC_RxD0/GMC0_RxD0, AD1 GMC_TxD2/GMC0_TxD2, AD2 GMC_TxD1/GMC0_TxD1, AD4 GMC_CCD/GMC1_RxCLK, AD5 GMC_TxEn/GMC0_TxCTL, AD7 GMC_RefClk, AD9 GMC_RxClk/GMC0_RxClk, AD10 GMC_RxD2/GMC0_RxD2, AE1 GMC_TxD0/GMC0_TxD0, AE3 GMC_MDClk, AE4 GMC_GTxClk/GMC0_TxClk, AE5 GMC_RxDV/GMC0_RxCTL, AE6 GMC_RxD7/GMC1_RxD3, AE9 GMC_RxD4/GMC1_RxD0, AE10 GMC_RxD1/GMC0_RxD1, AF2 GMC_MDIO, AF3 GMC_TxEr/GMC1_TxCTL, AF4 GMC_CrS/GMC1_TxClk, AF5 GMC_RxEr/GMC1_RxCTL, AF6 GMC_RxD6/GMC1_RxD2, AF7 GMC_RxD5/GMC1_RxD1, AF9 GMC_RxD3/GMC0_RxD3
part D pins: J1 PCIE0_Rx#, J2 PCIE0_Rx, K2 PCIE0_Tx#, K3 PCIE0_Tx, L1 PCIE0_ClkC, L2 PCIE0_ClkT, L3 PCIE0_ATB, M2 PCIE0_RExtG, M3 PCIE0_RExt, N1 PCIE1_Rx#, N2 PCIE1_Rx, P2 PCIE1_Tx, P3 PCIE1_Tx#, R2 PCIE1_ATB, R3 PCIE1_ClkT, T2 PCIE1_ClkC, T3 PCIE1_RExt, T4 PCIE1_RExtG
part E pins: A2 Halt#, A9 PSROUser, AA1 IIC0SData, AA2 SCPClkOut/IIC1SClk, AA3 SCPDI, AA4 SCPDO/IIC1SData, AD6 SysErr, AD8 SysReset#, AD12 FSource0, C10 SysClk, D6 TmrClk, E2 UART_SerClk, F1 GPIO21/UART0_RI#/UART1_Rx, F2 GPIO17/UART0_DSR#/UART1_RTS#, F3 GPIO20/UART0_DTR#/UART1_Tx, F4 GPIO16/UART0_DCD#/UART1_CTS#, G1 GPIO19/USRT0_RTS, G2 GPIO18/UART0_CTS, G3 UART0_Rx, H2 UART0_Tx, L24 TrcClk, U3 GPIO28, V1 TMS, V2 TCK, W2 TDI, W3 TDO, Y1 TRST#, Y2 TestEn, Y3 IIC0SClk
part F pins: A1 GND0 (power), A8 GND1 (power), A11 SAGND (power), A12 SAVDD (power), A13 GND2 (power), A19 GND3 (power), A26 GND4 (power), AB1 GND56 (power), AB4 SVDD3 (power), AB23 SVDD/S2VDD5 (power), AC4 GND57 (power), AC5 SVDD2 (power), AC7 SVDD4 (power), AC8 SVDD5 (power), AC9 GND58 (power), AC10 VDD13 (power), AC12 VDD14 (power), AC13 GND59 (power), AC15 VDD15 (power), AC17 VDD16 (power), AC18 GND60 (power), AC19 SVDD/S2VDD6 (power), AC20 SVDD/S2VDD7 (power), AC22 SVDD/S2VDD8 (power), AC23 GND61 (power), AD3 GND62 (power), AD14 SVDD/S2VDD9 (power), AD24 GND63 (power), AE2 GND64 (power), AE7 EAGND (power), AE8 EAVDD (power), AE25 GND65 (power), AF1 GND66 (power), AF8 GND67 (power), AF14 GND68 (power), AF19 GND69 (power), AF26 GND70 (power), B1 GND5 (power), B2 GND6 (power), B25 GND7 (power), C1 GND8 (power), C2 GND9 (power), C3 GND10 (power), C24 GND11 (power), D4 GND12 (power), D5 OVDD0 (power), D7 OVDD1 (power), D8 OVDD2 (power), D9 GND13 (power), D10 VDD1 (power), D12 SVDD0 (power), D13 OVDD3 (power), D14 GND14 (power), D15 VDD2 (power), D17 VDD0 (power), D18 GND15 (power), D19 OVDD4 (power), D20 OVDD5 (power), D22 OVDD6 (power), D23 GND16 (power), E1 GND17 (power), E3 GND18 (power), E4 OVDD7 (power), E23 OVDD8 (power), G4 OVDD9 (power), G23 OVDD10 (power), H1 GND19 (power), H4 VDD3 (power), H23 OVDD11 (power), H26 GND20 (power), J3 AVDD0 (power), J4 GND21 (power), J23 GND22 (power), K1 AGND1 (power), K4 AVDD1 (power), K23 VDD4 (power), K24 GND23 (power), L4 AGND2 (power), L11 GND24 (power), L12 OVDD12 (power), L13 GND25 (power), L14 VDD5 (power), L15 OVDD13 (power), L16 GND27 (power), M1 AVDD2 (power), M4 AHVDD0 (power), M11 OVDD14 (power), M12 GND28 (power), M13 GND29 (power), M14 GND26 (power), M15 GND30 (power), M16 OVDD15 (power), M23 VDD6 (power), N3 AVDD3 (power), N4 AVDD4 (power), N11 VDD7 (power), N12 GND31 (power), N13 GND32 (power), N14 GND33 (power), N15 GND34 (power), N16 GND35 (power), N23 SVDD/S2VDD0 (power), N26 GND36 (power), P1 AVDD5 (power), P4 AGND3 (power), P11 GND37 (power), P12 GND38 (power), P13 GND39 (power), P14 GND40 (power), P15 GND41 (power), P16 VDD8 (power), P23 GND42 (power), R1 AGND4 (power), R4 AHVDD1 (power), R11 OVDD16 (power), R12 GND43 (power), R13 GND47 (power), R14 GND44 (power), R15 GND45 (power), R16 SVDD/S2VDD1 (power), R23 VDD10 (power), T1 AVDD6 (power), T11 GND46 (power), T12 SVDD1 (power), T13 VDD9 (power), T14 GND48 (power), T15 SVDD/S2VDD2 (power), T16 GND49 (power), U1 GND50 (power), U2 GND51 (power), U4 VDD11 (power), U23 VDD12 (power), V3 OVDD17 (power), V4 GND52 (power), V23 GND53 (power), W1 GND54 (power), W4 OVDD18 (power), W23 SVDD/S2VDD3 (power), W26 GND55 (power), Y4 OVDD19 (power), Y23 SVDD/S2VDD4 (power)

## PWM_A8430
designator U16, comment A8430EEK
White LED Driver , Constant Current Step Up Converter
footprint SOT23-5 PD
pins: 0 PAD, 1 SW, 2 GND, 3 FB, 4 EN, 5 VIN

## PWM_L5973D
designator U?, comment E-L5973D
2.5A SWITCH STEP DOWN SWITCHING REGULATOR
footprint PDSO-8
pins: 0 PAD, 1 OUT (out), 2 SYNC (in), 3 INH (in), 4 COMP, 5 FB (in), 6 VREF (out), 7 GND (power), 8 VCC (power)

## PWM_LM1770
designator U?, comment LM1770SMF
Low-Voltage SOT23 Synchronous Buck Controller
footprint SOT23-5
pins: 1 Vin (power), 2 GND (power), 3 LG (out), 4 HG (out), 5 FB (in)

## PWM_LM2575S-ADJ
designator U?
1A Step-Down Voltage Regulator
footprint TO263S
pins: 1 Vin (power), 2 Vout (out), 3 GND (power), 4 FB (in), 5 ~{ON}/OFF (in)

## PWM_LM2651-ADJ
designator U?
1.5A high efficiency DC/DC converter
footprint TSSOP-16
pins: 1 SW, 2 SW, 3 IN, 4 IN, 5 IN, 6 VCB, 7 AVIN, 8 ~{SD}, 9 FB, 10 COMP, 12 AGND, 13 AGND, 14 PGND, 15 PGND, 16 PGND
2 alternate drawings of the same symbol

## PWM_LM2670S-ADJ
designator U?
3A Step-Down Voltage Regulator
footprint TO-263
pins: 1 OUT, 2 IN, 3 Cb, 4 GND, 5 SYNC, 6 FDB, 7 ON/OFF
2 alternate drawings of the same symbol

## PWM_LM2727MTC
designator U?
N-Channel FET Synchronous Buck Regulator Controller (ELFA)
footprint TSSOP-14 (Footprint not found)
pins: 1 BOOT, 2 LG (out), 3 PGND (power), 4 SGND (power), 5 Vcc (power), 6 PWGood (oc), 7 ISEN (in), 8 EAO (out), 9 SS (in), 10 FB (in), 11 FREQ (in), 12 ~{SD} (in), 13 PGND (power), 14 HG (out)

## PWM_LM2733
designator U?, comment LM2733 X
0.6/1.6 MHz Boost Converters With 40V Internal FET
footprint SOT23-5
pins: 1 SW, 2 GND, 3 FB, 4 ~{SHDN}, 5 Vin
2 alternate drawings of the same symbol

## PWM_LM2831Y
designator U24, comment LM2831YSD
footprint PLL-6
footprint PLL-6
pins: 1 FB, 2 GND0, 3 SW, 4 VIND, 5 VINA, 6 EN, 7 EP (power)

## PWM_LM2832XMY
designator U12
1.6Mhz STEP DOWN converter
footprint MSOP-8 Termal PAD
pins: 1 VIND, 2 VINA, 3 GND, 4 EN, 5 GND, 6 FB, 7 GND, 8 SW, 9 PAD

## PWM_LM2853
designator U25, comment LM2853MH-1.2
3A 550 kHz Synchronous SIMPLE SWITCHER
footprint TSSOP14-EP
footprint TSSOP14EP
pins: 0 EP (power), 1 AVIN (power), 2 EN, 3 SGND (power), 4 SS, 5 NC0, 6 PVIN (power), 7 PVIN (power), 8 SW1, 9 SW0, 10 PGND (power), 11 PGND (power), 12 NC1, 13 NC2, 14 SNS

## PWM_MC34063A
designator U?, comment MC34063
footprint so-8
footprint DIP-8
pins: 1 QC, 2 QE (out), 3 Ct, 4 GND (power), 5 FB (in), 6 VCC (power), 7 Ipksens (in), 8 DRVcc
2 alternate drawings of the same symbol

## PWM_SG3525
designator U?, comment SG3525-SMD
REGULATING PULSE WIDTH MODULATORS (TME)
footprint SO-16
footprint DIP-16
pins: 1 ERR- (in), 2 ERR+ (in), 3 SYNC, 4 OSC OUT (out), 5 Ct (out), 6 Rt (out), 7 Disch, 8 SoftStart, 9 COMP, 10 SHDT, 11 OUT A, 12 GND, 13 Vcol, 14 OUT B, 15 Vcc, 16 Vref

## PWM_SG3526N
designator U?
REGULATING PULSE WIDTH MODULATOR (TME)
footprint DIP-18 (Footprint not found)
pins: 1 ERR+ (in), 2 ERR- (in), 3 COMP, 4 Csoft, 5 ~{RESET} (in), 6 Isense- (in), 7 Isense+ (in), 8 ~{SHD} (in), 9 Rt, 10 Ct, 11 Rdt, 12 ~{SYNC} (out), 13 OUT A (out), 14 Vcol (power), 15 GND (power), 16 OUT B (out), 17 Vcc (out), 18 Vref (out)

## PWM_TL494
designator U?
PWM controller
footprint DIP-16
pins: 1 1 IN+, 2 1 IN-, 3 FEEDB, 4 DTC, 5 CT, 6 RT, 7 GND, 8 C1, 9 E1, 10 E2, 11 C2, 12 Vcc, 13 MODE, 14 REF, 15 2 IN-, 16 2 IN+
2 alternate drawings of the same symbol

## PWM_TPS51020
designator U?, comment TPS51020DBT
footprint TSSOP-30
pins: 1 INV1 (in), 2 COMP1 (out), 3 SSTRT1 (in), 4 ~{SKIP} (in), 5 VO1_VDDQ (in), 6 ~{DDR} (in), 7 GND (power), 8 REF_X (out), 9 ENBL1 (in), 10 ENBL2 (in), 11 VO2 (in), 12 PGOOD (out), 13 SSTRT2 (in), 14 COMP2 (out), 15 INV2 (in), 16 VBST2 (in), 17 OUT2_U (out), 18 LL2 (io), 19 OUT2_D (out), 20 OUTGND2 (power), 21 REG5_IN (in), 22 VREG5 (out), 23 TRIP2 (in), 24 VIN (in), 25 TRIP1 (in), 26 OUTGND1 (power), 27 OUT1_D (out), 28 LL1 (io), 29 OUT1_U (out), 30 VBST1 (in)

## PWM_TPS54286
designator U?, comment TPS54286PWPG4
2-A DUAL CONVERTER WITH INTEGRATED HIGH SIDE MOSFET
footprint R-PDSO-G14
pins: 0 GND, 1 PVDD1 (power), 2 BOOT1, 3 SW1 (out), 4 GND (power), 5 ~{EN1} (in), 6 ~{EN2} (in), 7 FB1 (in), 8 FB2 (in), 9 ILIM2, 10 SEQ, 11 BP, 12 SW2 (out), 13 BOOT2, 14 PVDD2

## PWM_UC384X
designator U?
PWM controlelr
footprint DIP-8
pins: 1 COMP, 2 Vfb, 3 Isense, 4 Rt/Ct, 5 GND, 6 OUT, 7 Vcc, 8 Vref
2 alternate drawings of the same symbol

## PWM_UC3853
designator U?
footprint DIP-8
pins: 1 Iac (in), 2 Vcc (power), 3 OUT (out), 4 GND (power), 5 FB (in), 6 Vcomp, 7 IMO, 8 Icomp
text: 7.5V; 11.5V/9.5V; REF; IC power; 3.0V; A; 7.05V/7V; Im=; AB; C; B; R; Q; VCC/8; 3.15/3V; X; S; SYNC; OSCILLATOR

## PWM_UC3854
designator U?, comment UC3854N
footprint DIP-16
pins: 1 GND (power), 2 PKLIM (in), 3 CA_OUT (out), 4 Isense (in), 5 MULT_OUT (io), 6 Iac (in), 7 VAout (out), 8 Vrms (in), 9 REF (out), 10 ENA (in), 11 Vsense (in), 12 Rset (in), 13 SS, 14 Ct, 15 VCC (power), 16 Gt (out)
text: Vcc; 16V/10V; 7.5V; 2.5/2.25V; run; IC power; A; R; Im=; AB; C; B; Q; X; OSCILLATOR; S

## PWM_UC3872
designator U?, comment UC3872M
Resonant Lamp Ballast Controller
footprint R-PDSO-G16
pins: 1 BOUT (out), 2 AOUT (out), 3 VC (power), 4 COMP (out), 5 SS, 6 nc, 7 INV (in), 8 CT, 9 ZD (in), 10 nc, 11 REF (out), 12 VCC (power), 13 ENBL (in), 14 COUT (out), 15 PGND (power), 16 GND (power)

## Q_2N2219
designator Q?, comment 2N2219
Transistor
footprint to-39
pins: 1 E, 2 B (in), 3 C
2 alternate drawings of the same symbol

## Q_2N2904
designator Q?, comment 2N2904
Transistor
footprint to-39
pins: 1 E, 2 B (in), 3 C
2 alternate drawings of the same symbol

## Q_2N7000
designator Q?, comment 2N7000
N MOSFET, 0.11A, 60V, 1.5R,0.2W
footprint to-92a
pins: 1 D, 2 G (in), 3 S

## Q_2N7002
designator Q?, comment 2N7002
N MOSFET, 0.11A, 60V, 1.5R,0.2W
footprint sot-23
pins: 1 G (in), 2 S, 3 D

## Q_BC547
designator Q?, comment BC547
Transistor
footprint TO-92A
pins: 1 E, 2 B (in), 3 C
2 alternate drawings of the same symbol

## Q_BC557
designator Q?, comment BC557
Transistor
footprint TO-92A
pins: 1 E, 2 B (in), 3 C
2 alternate drawings of the same symbol

## Q_BC847B
designator Q?, comment BC847B
Transistor
footprint SOT-23
pins: 1 B (in), 2 E, 3 C
2 alternate drawings of the same symbol

## Q_BC847BS
designator Q?, comment BC847BS
dual NPN Transistor,100mA, 45V, 100MHz
footprint SC-88 (Footprint not found)
part A pins: 1 E, 2 B (in), 6 C
part B pins: 3 C, 4 E, 5 B (in)
2 alternate drawings of the same symbol

## Q_BC857B
designator Q?, comment BC857B
Transistor
footprint SOT-23
pins: 1 B (in), 2 E, 3 C
2 alternate drawings of the same symbol

## Q_BCP56-16
designator Q?, comment BCP56-16
Transistor 1A, 100V, 1.5W
footprint SOT-223
pins: 1 B (in), 2 C, 3 E
2 alternate drawings of the same symbol

## Q_BCP69
designator Q?, comment BCP69
Transistor
footprint SOT-223
pins: 1 B (in), 2 C, 3 E
2 alternate drawings of the same symbol

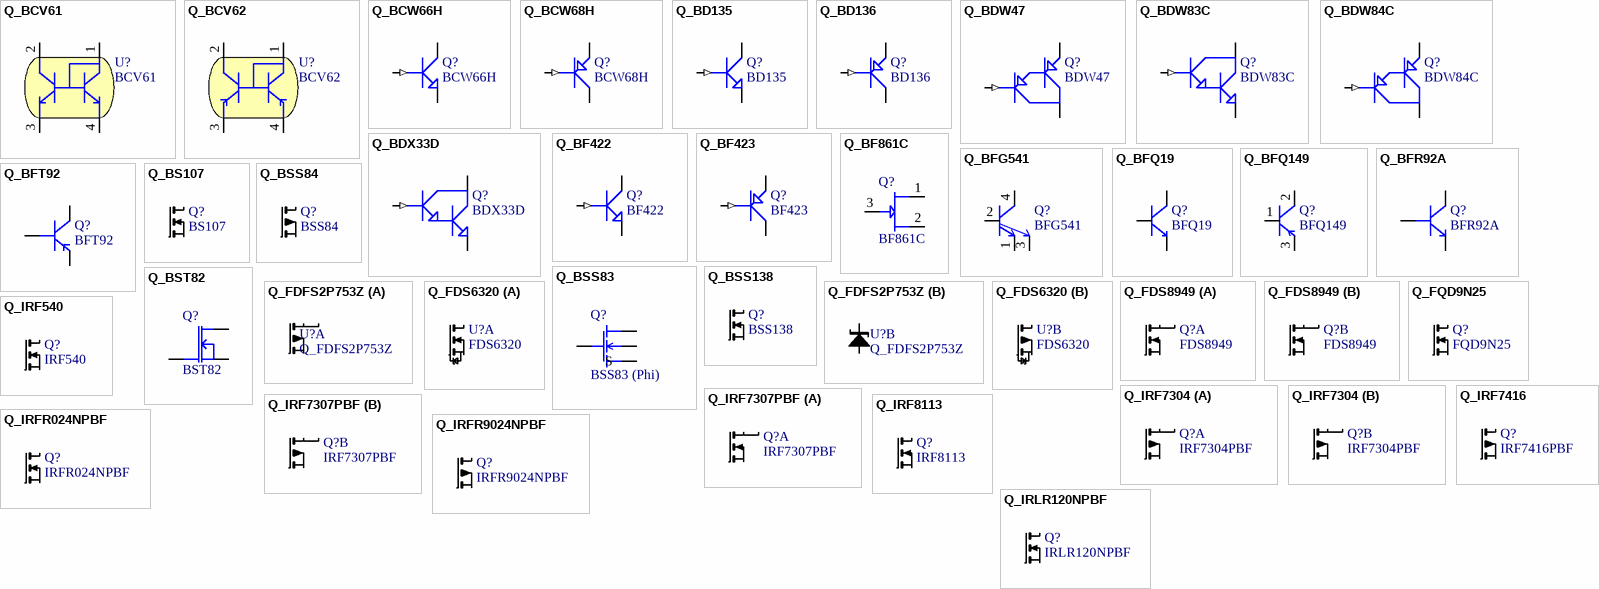
[diagram p35: symbols Q_BCV61 to Q_IRLR120NPBF]

## Q_BCV61
designator U?, comment BCV61
footprint SOT143B
pins: 1, 2, 3, 4
2 alternate drawings of the same symbol

## Q_BCV62
designator U?, comment BCV62
footprint SOT143B
pins: 1, 2, 3, 4
2 alternate drawings of the same symbol

## Q_BCW66H
designator Q?, comment BCW66H
Transistor NPN, 0.8A, 45V, SOT23
footprint SOT-23
pins: 1 B (in), 2 E, 3 C
2 alternate drawings of the same symbol

## Q_BCW68H
designator Q?, comment BCW68H
Transistor 0.8A, 45V, SOT23,
footprint SOT-23
pins: 1 B (in), 2 E, 3 C
2 alternate drawings of the same symbol

## Q_BD135
designator Q?, comment BD135
NPN Transistor
footprint TO126
pins: 1 E, 2 C, 3 B (in)
2 alternate drawings of the same symbol

## Q_BD136
designator Q?, comment BD136
PNP Transistor
footprint TO126
pins: 1 E, 2 C, 3 B (in)
2 alternate drawings of the same symbol

## Q_BDW47
designator Q?, comment BDW47
footprint TO-220
pins: 1 B (in), 2 C, 3 E
2 alternate drawings of the same symbol

## Q_BDW83C
designator Q?, comment BDW83C
NPN-DARL, 15A, 100V (Maritex)
footprint to-218 (power transistor)
pins: 1 B (in), 2 C, 3 E
2 alternate drawings of the same symbol

## Q_BDW84C
designator Q?, comment BDW84C
PNP-DARL, 15A, 100V (Maritex)
footprint to-218 (power transistor)
pins: 1 B (in), 2 C, 3 E
2 alternate drawings of the same symbol

## Q_BDX33D
designator Q?, comment BDX33D
footprint to-220
pins: 1 B (in), 2 C, 3 E
2 alternate drawings of the same symbol

## Q_BF422
designator Q?, comment BF422
footprint TO-92A
pins: 1 B (in), 2 C, 3 E
2 alternate drawings of the same symbol

## Q_BF423
designator Q?, comment BF423
footprint TO-92A
pins: 1 B (in), 2 C, 3 E
2 alternate drawings of the same symbol

## Q_BF861C
designator Q?, comment BF861C
Junction FET (Philips)
footprint SOT-23
pins: 1 S, 2 D, 3 G
2 alternate drawings of the same symbol

## Q_BFG541
designator Q?, comment BFG541
footprint SOT223-4
pins: 1, 2, 3, 4
2 alternate drawings of the same symbol

## Q_BFQ19
designator Q?, comment BFQ19
footprint sot89
pins: 1, 2, 3
2 alternate drawings of the same symbol

## Q_BFQ149
designator Q?, comment BFQ149
footprint sot89
pins: 1, 2, 3
2 alternate drawings of the same symbol

## Q_BFR92A
designator Q?, comment BFR92A
footprint SOT-23
pins: 1, 2, 3
2 alternate drawings of the same symbol

## Q_BFT92
designator Q?, comment BFT92
footprint SOT-23
pins: 1, 2, 3
2 alternate drawings of the same symbol

## Q_BS107
designator Q?, comment BS107
footprint TO-92A
pins: 1 S, 2 G (in), 3 D
2 alternate drawings of the same symbol

## Q_BSS83
designator Q?, comment BSS83 (Phi)
NMOS
footprint SOT143B
pins: 1 B, 2 S, 3 D, 4 G
2 alternate drawings of the same symbol

## Q_BSS84
designator Q?, comment BSS84
P MOSFET 50V, 0.36W, 0.15A
footprint sot-23
pins: 1 G (in), 2 S, 3 D

## Q_BSS138
designator Q?, comment BSS138
footprint SOT-23
pins: 1 G (in), 2 S, 3 D
2 alternate drawings of the same symbol

## Q_BST82
designator Q?, comment BST82
footprint SOT-23
pins: 1 G, 2 S, 3 D
2 alternate drawings of the same symbol

## Q_FDFS2P753Z
designator U?
Integrated P-Channel and Schottky Diode -30V, -3A, 115mR
footprint SO-8
part A pins: 3 S1 (oe), 4 G1 (in), 5 D1 (oc), 6 D1 (oc)
part B pins: 1 A, 2 A, 7 K, 8 K

## Q_FDS6320
designator U?, comment FDS6320
footprint SuperSOT-6
part A pins: 1 G1 (in), 5 S1 (oe), 6 D1 (oc)
part B pins: 2 S2 (oe), 3 G2 (in), 4 D2 (oc)

## Q_FDS8949
designator Q?, comment FDS8949
dual NMOS 40V, 6A, 29mR
footprint so-8
part A pins: 1 S1 (oe), 2 G1 (in), 7 D1 (oc), 8 D1 (oc)
part B pins: 3 S2 (oe), 4 G2 (in), 5 D2 (oc), 6 D2 (oc)

## Q_FQD9N25
designator Q?, comment FQD9N25
N-MOSFET  7.4A, 250V, 2.5W 0.42R
footprint TO-252
pins: 1 G (in), 2 D (oc), 3 S (oe)
2 alternate drawings of the same symbol

## Q_IRF540
designator Q?, comment IRF540
MOSFET N
footprint TO220
footprint TO-220L
footprint TO-252
pins: 1 G (in), 2 D (oc), 3 S (oe)
2 alternate drawings of the same symbol

## Q_IRF7304
designator Q?, comment IRF7304PBF
dual PMOS   20V 4,3A 2,0W 0,09R
footprint so-8
part A pins: 1 S1, 2 G1 (in), 7 D1, 8 D1
part B pins: 3 S2, 4 G2 (in), 5 D2, 6 D2

## Q_IRF7307PBF
designator Q?, comment IRF7307PBF
dual N/P MOS 20V, 3A, 70mR (TME)
footprint so-8
part A pins: 1 S1 (oe), 2 G1 (in), 7 D1 (oc), 8 D1 (oc)
part B pins: 3 S2 (oe), 4 G2 (in), 5 D2 (oc), 6 D2 (oc)

## Q_IRF7416
designator Q?, comment IRF7416PBF
PMOS 30V, 20mR, 7A, 2.5W
footprint so-8
pins: 1 S1 (oe), 2 S1 (oe), 2 S1 (oe), 4 G1 (in), 5 D1 (oc), 6 D1 (oc), 7 D1 (oc), 8 D1 (oc)

## Q_IRF8113
designator Q?, comment IRF8113
NMOS 30V, 5.6mR, 13.8A, 2.5W
footprint so-8
pins: 1 S1 (oe), 2 S1 (oe), 2 S1 (oe), 4 G1 (in), 5 D1 (oc), 6 D1 (oc), 7 D1 (oc), 8 D1 (oc)

## Q_IRFR024NPBF
designator Q?, comment IRFR024NPBF
N-MOSFET  16A 55V 38W (TME)
footprint TO-252
pins: 1 G (in), 2 D (oc), 3 S (oe)
2 alternate drawings of the same symbol

## Q_IRFR9024NPBF
designator Q?, comment IRFR9024NPBF
P-MOSFET 55V 11A 38W (TME)
footprint TO220
footprint TO-220L
footprint TO-252
pins: 1 G (in), 2 D (oc), 3 S (oe)
2 alternate drawings of the same symbol

## Q_IRLR120NPBF
designator Q?, comment IRLR120NPBF
N-MOSFET  10A,100V,0.185R
footprint TO-252
pins: 1 G (in), 2 D (oc), 3 S (oe)
2 alternate drawings of the same symbol

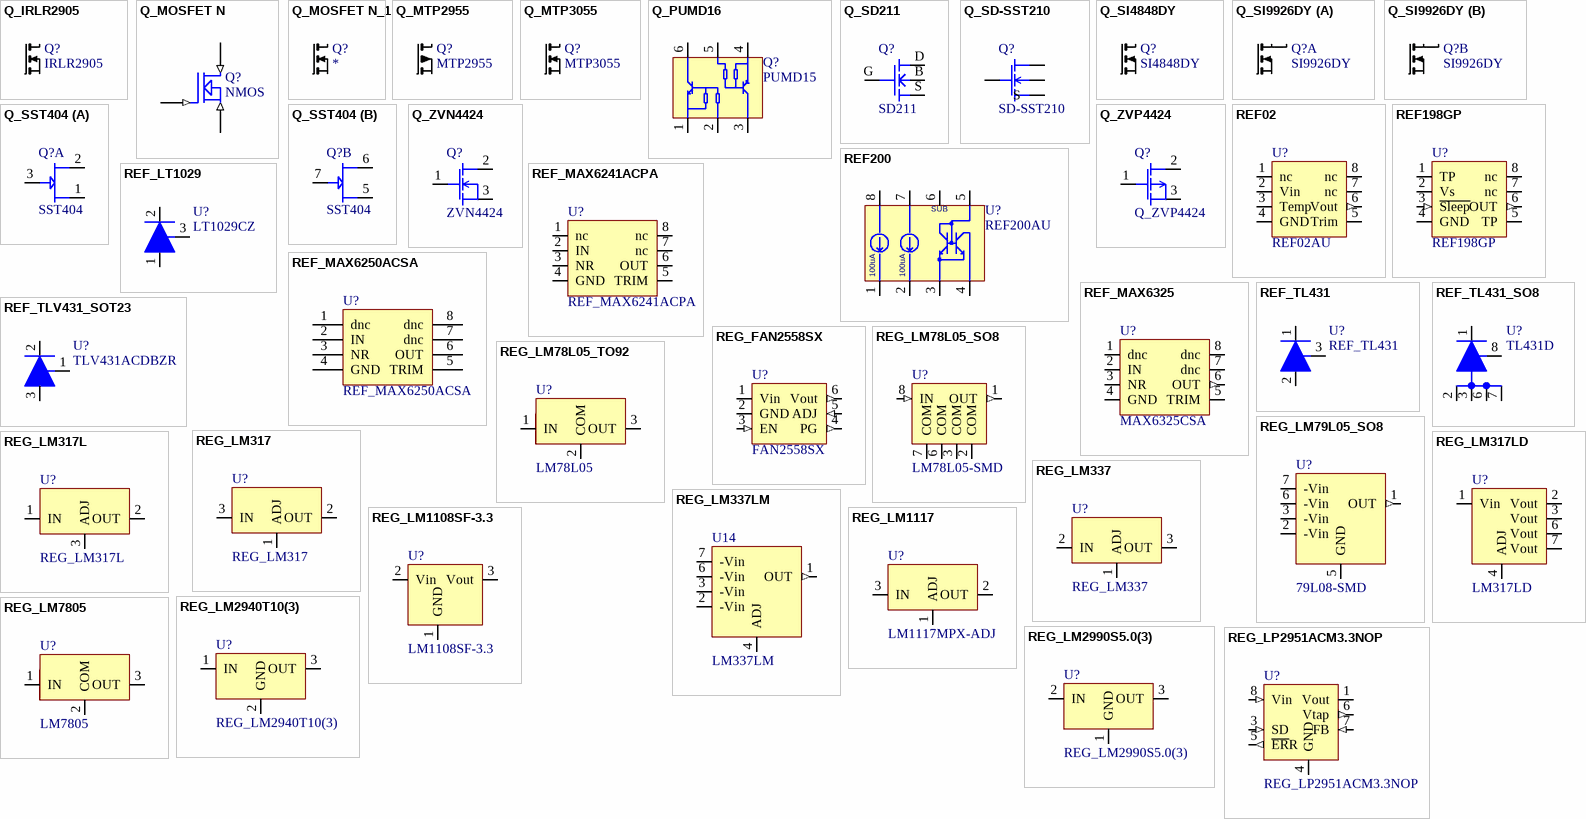
[diagram p36: symbols Q_IRLR2905 to REG_LP2951ACM3.3NOP]

## Q_IRLR2905
designator Q?, comment IRLR2905
N-MOSFET 55V 42A 110W TO252AA
footprint TO-252
pins: 1 G (in), 2 D (oc), 3 S (oe)
2 alternate drawings of the same symbol

## Q_MOSFET N
designator Q?, comment NMOS
MOSFET
pins: 1 G (in), 2 D (in), 3 S (in)
2 alternate drawings of the same symbol

## Q_MOSFET N_1
designator Q?
MOSFET N
footprint TO220
footprint TO-220L
footprint TO-252
pins: 1 G (in), 2 D (in), 3 S (in)
2 alternate drawings of the same symbol

## Q_MTP2955
designator Q?, comment MTP2955
MOSFET P
footprint TO220
footprint TO-220L
footprint TO-252
pins: 1 G (in), 2 D (oc), 3 S (oe)
2 alternate drawings of the same symbol

## Q_MTP3055
designator Q?, comment MTP3055
MOSFET N
footprint TO220
footprint TO-220L
footprint TO-252
pins: 1 G (in), 2 D (oc), 3 S (oe)
2 alternate drawings of the same symbol

## Q_PUMD16
designator Q?, comment PUMD15
dual digital NPN/PNP transistor
footprint SC-88
pins: 1, 2, 3, 4, 5, 6

## Q_SD211
designator Q?, comment SD211
NMOS
footprint TO-72
pins: B, D, G, S
2 alternate drawings of the same symbol

## Q_SD-SST210
designator Q?, comment SD-SST210
NMOS
footprint SOT143B
pins: 1 B, 2 S, 3 D, 4 G
2 alternate drawings of the same symbol

## Q_SI4848DY
designator Q?, comment SI4848DY
NMOS  150V 2.7A, 1W, 0.085R
footprint so-8
pins: 1 S1 (oe), 2 S1 (oe), 2 S1 (oe), 4 G1 (in), 5 D1 (oc), 6 D1 (oc), 7 D1 (oc), 8 D1 (oc)

## Q_SI9926DY
designator Q?, comment SI9926DY
dual NMOS  20V 6.2A 14W 0.02R
footprint so-8
part A pins: 1 S1 (oe), 2 G1 (in), 7 D1 (oc), 8 D1 (oc)
part B pins: 3 S2 (oe), 4 G2 (in), 5 D2 (oc), 6 D2 (oc)

## Q_SST404
designator Q?, comment SST404
Dual JFET
footprint SO8
part A pins: 1 2, 2 1, 3 G
part B pins: 5 3, 6 4, 7 5
2 alternate drawings of the same symbol

## Q_ZVN4424
designator Q?, comment ZVN4424
footprint SOT_223
pins: 1 G, 2 D, 3 S
2 alternate drawings of the same symbol

## Q_ZVP4424
designator Q?
footprint SOT_223
pins: 1 G, 2 D, 3 S
2 alternate drawings of the same symbol

## REF02
designator U?, comment REF02AU
+5V Precision  VOLTAGE REFERENCE (TME)
footprint SO-8
footprint DIP-8
pins: 1 nc, 2 Vin (power), 3 Temp, 4 GND (power), 5 Trim, 6 Vout (out), 7 nc, 8 nc

## REF198GP
designator U?
Precision Micropower, Low Dropout, Low Voltage References (TME)
footprint SO-8
pins: 1 TP, 2 Vs (power), 3 ~{Sleep} (in), 4 GND (power), 5 TP, 6 OUT (out), 7 nc, 8 nc

## REF200
designator U?, comment REF200AU
precision current source & mirror
footprint SO-8
pins: 1, 2, 3, 4, 5, 6, 7, 8
text: SUB; 100uA

## REF_LT1029
designator U?, comment LT1029CZ
5V Bandgap Reference
footprint TO-92A
pins: 1 K, 2 I/O, 3 REF

## REF_MAX6241ACPA
designator U?
footprint DIP-8
footprint SO-8
pins: 1 nc, 2 IN, 3 NR, 4 GND, 5 TRIM, 6 OUT, 7 nc, 8 nc
2 alternate drawings of the same symbol

## REF_MAX6250ACSA
designator U?
footprint SO-8
pins: 1 dnc, 2 IN, 3 NR, 4 GND, 5 TRIM, 6 OUT, 7 dnc, 8 dnc
2 alternate drawings of the same symbol

## REF_MAX6325
designator U?, comment MAX6325CSA
1ppm/°C, Low-Noise, +2.5V Voltage Reference
footprint SO-8
pins: 1 dnc, 2 IN (power), 3 NR, 4 GND (power), 5 TRIM, 6 OUT (out), 7 dnc, 8 dnc
2 alternate drawings of the same symbol

## REF_TL431
designator U?
Voltage reference
footprint TO-92A
pins: 1 I/O, 2 K, 3 REF
2 alternate drawings of the same symbol

## REF_TL431_SO8
designator U?, comment TL431D
Voltage reference
footprint SO-8
pins: 1 I/O, 2 A, 3 A, 6 K, 7 A, 8 REF
2 alternate drawings of the same symbol

## REF_TLV431_SOT23
designator U?, comment TLV431ACDBZR
Voltage reference
footprint SOT-23
pins: 1 REF, 2 I/O, 3 A
2 alternate drawings of the same symbol

## REG_FAN2558SX
designator U?, comment FAN2558SX
180mA Low Voltage CMOS LDO
footprint SOT23-6
pins: 1 Vin (power), 2 GND (power), 3 EN (in), 4 PG (out), 5 ADJ (in), 6 Vout (out)

## REG_LM78L05_SO8
designator U?, comment LM78L05-SMD
voltage regulator (Maritex)
footprint SO-8
pins: 1 OUT (out), 2 COM (power), 3 COM (power), 4 nc (power) hidden, 5 nc (power) hidden, 6 COM (power), 7 COM (power), 8 IN (in)

## REG_LM78L05_TO92
designator U?, comment LM78L05
Voltage Regulator
footprint TO-92inv
pins: 1 IN, 2 COM, 3 OUT
2 alternate drawings of the same symbol

## REG_LM79L05_SO8
designator U?, comment 79L08-SMD
negative voltage regulator (TME)
footprint SO-8
pins: 1 OUT (out), 2 -Vin (power), 3 -Vin (power), 4 nc (power) hidden, 5 nc (power) hidden, 5 GND (power), 6 -Vin (power), 7 -Vin (power)

## REG_LM317
designator U?
Voltage Regulator
footprint TO-220
footprint SOT-223
footprint TO-220-3S
pins: 1 ADJ, 2 OUT, 3 IN
2 alternate drawings of the same symbol

## REG_LM317L
designator U?
Voltage Regulator
footprint TO-92A
pins: 1 IN, 2 OUT, 3 ADJ
2 alternate drawings of the same symbol

## REG_LM317LD
designator U?, comment LM317LD
100mA adjustable regulator (maritex)
footprint SO-8
pins: 1 Vin (power), 2 Vout (power), 3 Vout (power), 4 ADJ (power), 6 Vout (power), 7 Vout (power)

## REG_LM337
designator U?
Voltage regulator - negative
footprint SOT-223
footprint to-220
pins: 1 ADJ, 2 IN, 3 OUT
2 alternate drawings of the same symbol

## REG_LM337LM
designator U14, comment LM337LM
negative voltage regulator (farnell)
footprint SO-8
pins: 1 OUT (out), 2 -Vin (power), 3 -Vin (power), 4 nc (power) hidden, 4 ADJ, 5 nc (power) hidden, 6 -Vin (power), 7 -Vin (power)

## REG_LM1108SF-3.3
designator U?, comment LM1108SF-3.3
300mA C-MOS L.D.O. Regulator
footprint SOT-23
pins: 1 GND (power), 2 Vin (power), 3 Vout (power)

## REG_LM1117
designator U?, comment LM1117MPX-ADJ
Voltage Regulator
footprint TO-220
footprint SOT-223
footprint TO-220-3S
pins: 1 ADJ, 2 OUT, 3 IN
2 alternate drawings of the same symbol

## REG_LM2940T10(3)
designator U?
1A LOW DROPOUT REGULATOR
footprint TO-220-3S
pins: 1 IN (power), 2 GND (power), 3 OUT (power)
2 alternate drawings of the same symbol

## REG_LM2990S5.0(3)
designator U?
NEGATIVE LOW DROPOUT REGULATOR
footprint TO-220-3S
pins: 1 GND (power), 2 IN (power), 3 OUT (power)
2 alternate drawings of the same symbol

## REG_LM7805
designator U?, comment LM7805
Voltage Regulator
footprint TO-220
footprint TO-220L
footprint TO-220-3S
footprint TO-92inv
pins: 1 IN, 2 COM, 3 OUT
2 alternate drawings of the same symbol

## REG_LP2951ACM3.3NOP
designator U?
LP LDO voltage regulator
footprint SO-8
pins: 1 Vout (power), 3 SD (in), 4 GND (power), 5 ~{ER}R (out), 6 Vtap (out), 7 FB (in), 8 Vin (in)

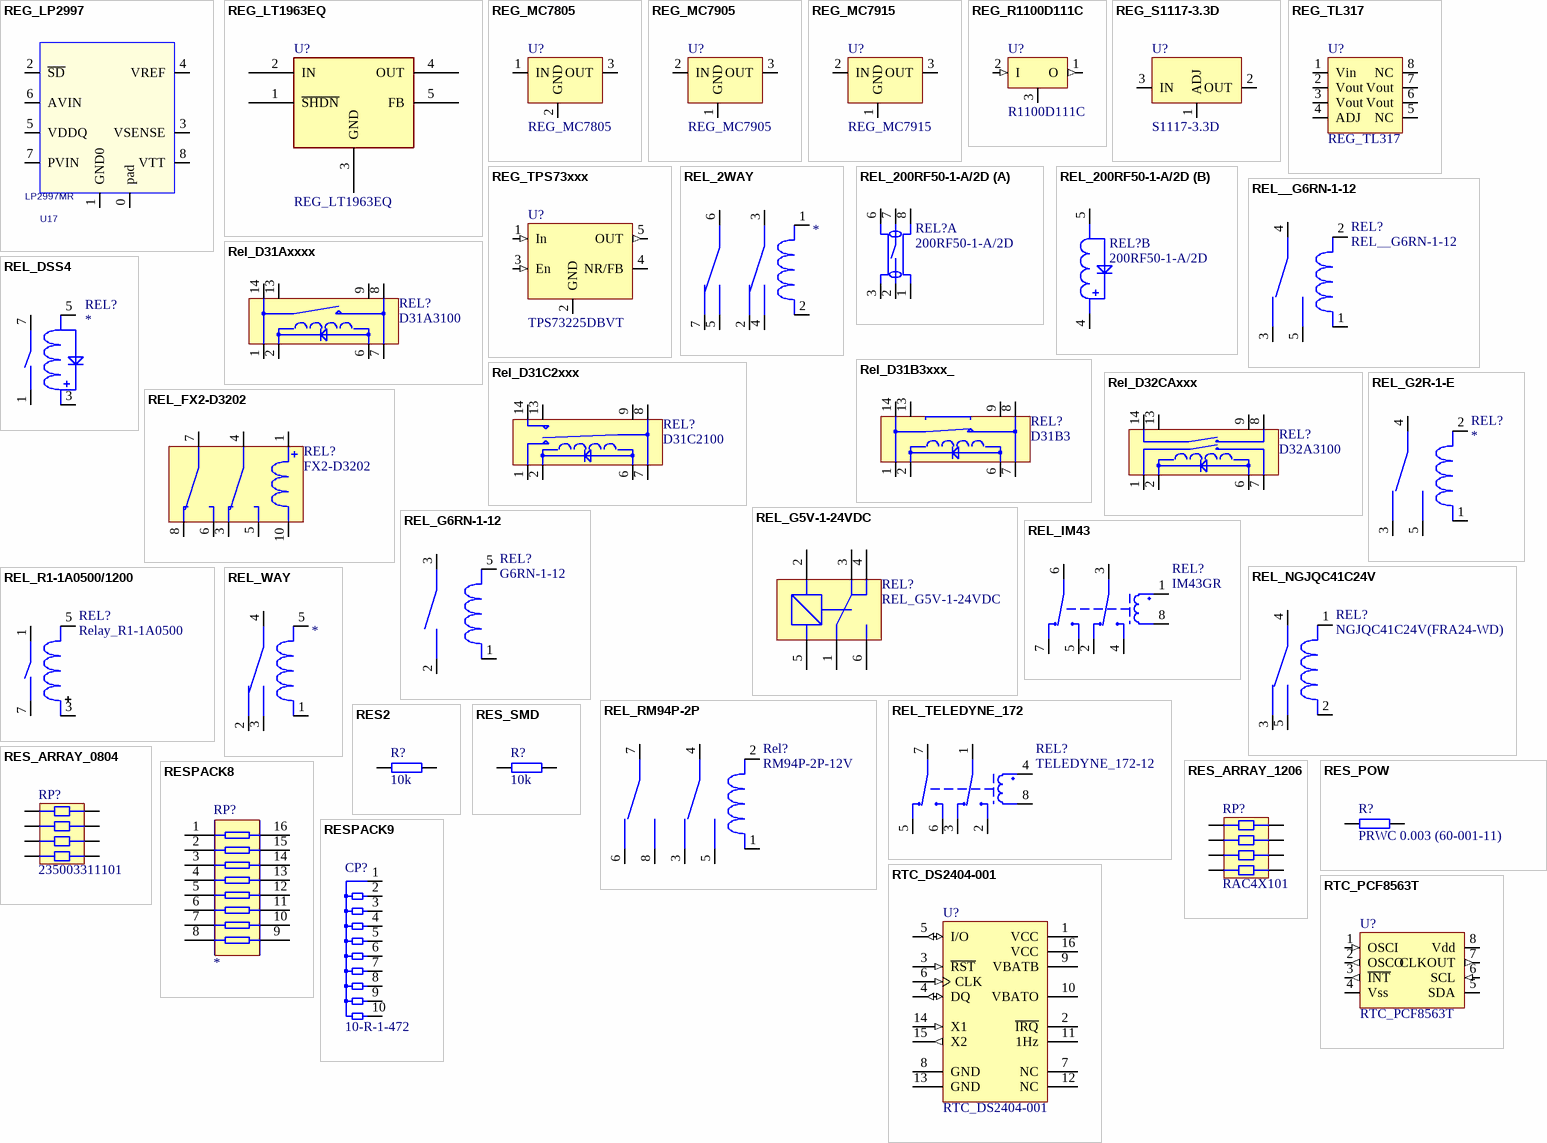
[diagram p37: symbols REG_LP2997 to RTC_PCF8563T]

## REG_LP2997
designator U17, comment LP2997MR
SM REG DDR TERMINATION
footprint PSOP-8
pins: 0 pad, 1 GND0 (power), 2 ~{SD}, 3 VSENSE, 4 VREF, 5 VDDQ, 6 AVIN, 7 PVIN, 8 VTT

## REG_LT1963EQ
designator U?
3A, LDO Regulator
footprint TO-220-5S
pins: 1 ~{SHDN}, 2 IN, 3 GND, 4 OUT, 5 FB
2 alternate drawings of the same symbol

## REG_MC7805
designator U?
Voltage Regulators; Text Field1: Heatsink surface is connected to pin2
footprint TO220
footprint TO-220L
footprint TO-92inv
pins: 1 IN (power), 2 GND (power), 3 OUT (power)
2 alternate drawings of the same symbol

## REG_MC7905
designator U?
Voltage Regulator
footprint TO-220
footprint TO-92inv
pins: 1 GND (power), 2 IN (power), 3 OUT (power)
2 alternate drawings of the same symbol

## REG_MC7915
designator U?
Voltage Regulator
footprint TO220
pins: 1 GND (power), 2 IN (power), 3 OUT (power)
2 alternate drawings of the same symbol

## REG_R1100D111C
designator U?, comment R1100D111C
Ricoch micropower voltage regulator (1V)
footprint son1408-3
pins: 1 O (out), 2 I (in), 3 G (power)

## REG_S1117-3.3D
designator U?, comment S1117-3.3D
Voltage Regulator
footprint TO-252
pins: 1 ADJ, 2 OUT, 3 IN
2 alternate drawings of the same symbol

## REG_TL317
designator U?
footprint SO8
pins: 1 Vin, 2 Vout, 3 Vout, 4 ADJ, 5 NC, 6 Vout, 7 Vout, 8 NC
2 alternate drawings of the same symbol

## REG_TPS73xxx
designator U?, comment TPS73225DBVT
NMOS, 250mA Low Dropout Regulator with Reverse Current Protection
footprint SOT23-5
pins: 1 In (in), 2 GND (power), 3 En (in), 4 NR/FB, 5 OUT (out)

## REL_2WAY
designator ?
pins: 1 -, 2 +, 2, 3, 4, 5, 6, 7
2 alternate drawings of the same symbol

## REL_200RF50-1-A/2D
designator REL?, comment 200RF50-1-A/2D
Pickering RF relay
footprint 200RF50-1-A/2D (Footprint not found)
part A pins: 1, 2, 3, 6, 7, 8
part B pins: 4 +, 5 -

## REL__G6RN-1-12
designator REL?
Omron Relay (TME)
footprint G6RN-1-12 (Footprint not found)
pins: 1 +, 2 -, 3, 4 con, 5
2 alternate drawings of the same symbol

## Rel_D31Axxxx
designator REL?, comment D31A3100
reed relay Celduc D31A
footprint Relay_reed_DIP14 (reed relay)
pins: 1, 2, 6, 7, 8, 9, 13, 14

## Rel_D31B3xxx_
designator REL?, comment D31B3
reed relay Celduc D31A
footprint Relay_reed_DIP14 (reed relay)
pins: 1, 2, 6, 7, 8, 9, 13, 14

## Rel_D31C2xxx
designator REL?, comment D31C2100
reed relay Celduc D31A
footprint Relay_reed_DIP14 (reed relay)
pins: 1, 2, 6, 7, 8, 9, 13, 14

## Rel_D32CAxxx
designator REL?, comment D32A3100
reed relay Celduc D31A
footprint Relay_reed_DIP14 (reed relay)
pins: 1, 2, 6, 7, 8, 9, 13, 14

## REL_DSS4
designator REL?
relay SP (ELFA)
footprint SIL_REL
pins: 1 con, 3 +, 5 -, 7 con
2 alternate drawings of the same symbol

## REL_FX2-D3202
designator REL?, comment FX2-D3202
DPCO subminiature signal relay
footprint REL_FX2
pins: 1 +, 3, 4, 5, 6, 7, 8, 10 -
2 alternate drawings of the same symbol

## REL_G2R-1-E
designator REL?
footprint G2R-1-E
pins: 1 +, 2 -, 3, 4 con, 5
2 alternate drawings of the same symbol

## REL_G5V-1-24VDC
designator REL?
footprint g5v-1-24vdcf
pins: 1, 2, 3, 4, 5, 6
2 alternate drawings of the same symbol

## REL_G6RN-1-12
designator REL?, comment G6RN-1-12
footprint REL_G6RN-1-12 (OMRON relay)
pins: 1 +, 2, 3 con, 5 -
2 alternate drawings of the same symbol

## REL_IM43
designator REL?, comment IM43GR
Axicom subminiature relay
footprint REL_IM43GR
pins: 1, 2, 3, 4, 5, 6, 7, 8

## REL_NGJQC41C24V
designator REL?, comment NGJQC41C24V(FRA24-WD)
30A, automobile relay -Maritex (TME)
footprint FRA24-WD
pins: 1, 2, 3, 4, 4a, 4b, 5

## REL_R1-1A0500/1200
designator REL?, comment Relay_R1-1A0500
reed relay (TME)
footprint REL_R1-1A0500 (reed relay TME)
pins: 1 con, 3 +, 5 -, 7 con
2 alternate drawings of the same symbol

## REL_RM94P-2P
designator Rel?, comment RM94P-2P-12V
footprint Rm94
pins: 1 +, 2 -, 3, 4 con, 5, 6, 7 con, 8
2 alternate drawings of the same symbol

## REL_TELEDYNE_172
designator REL?, comment TELEDYNE_172-12
Teledyne HF relay
footprint REL_TELEDYNE_172
pins: 1, 2, 3, 4, 5, 6, 7, 8

## REL_WAY
designator ?
pins: 1, 2, 3, 4, 5 -
2 alternate drawings of the same symbol

## RES2
designator R?, comment 10k
Resistor
footprint 0805
footprint AXIAL0.3
footprint AXIAL0.6
footprint 1206
pins: 1, 2
2 alternate drawings of the same symbol